# Altium schematic symbol library ADP_MyLib.SchLib: 203 symbols (part 2 of 4)
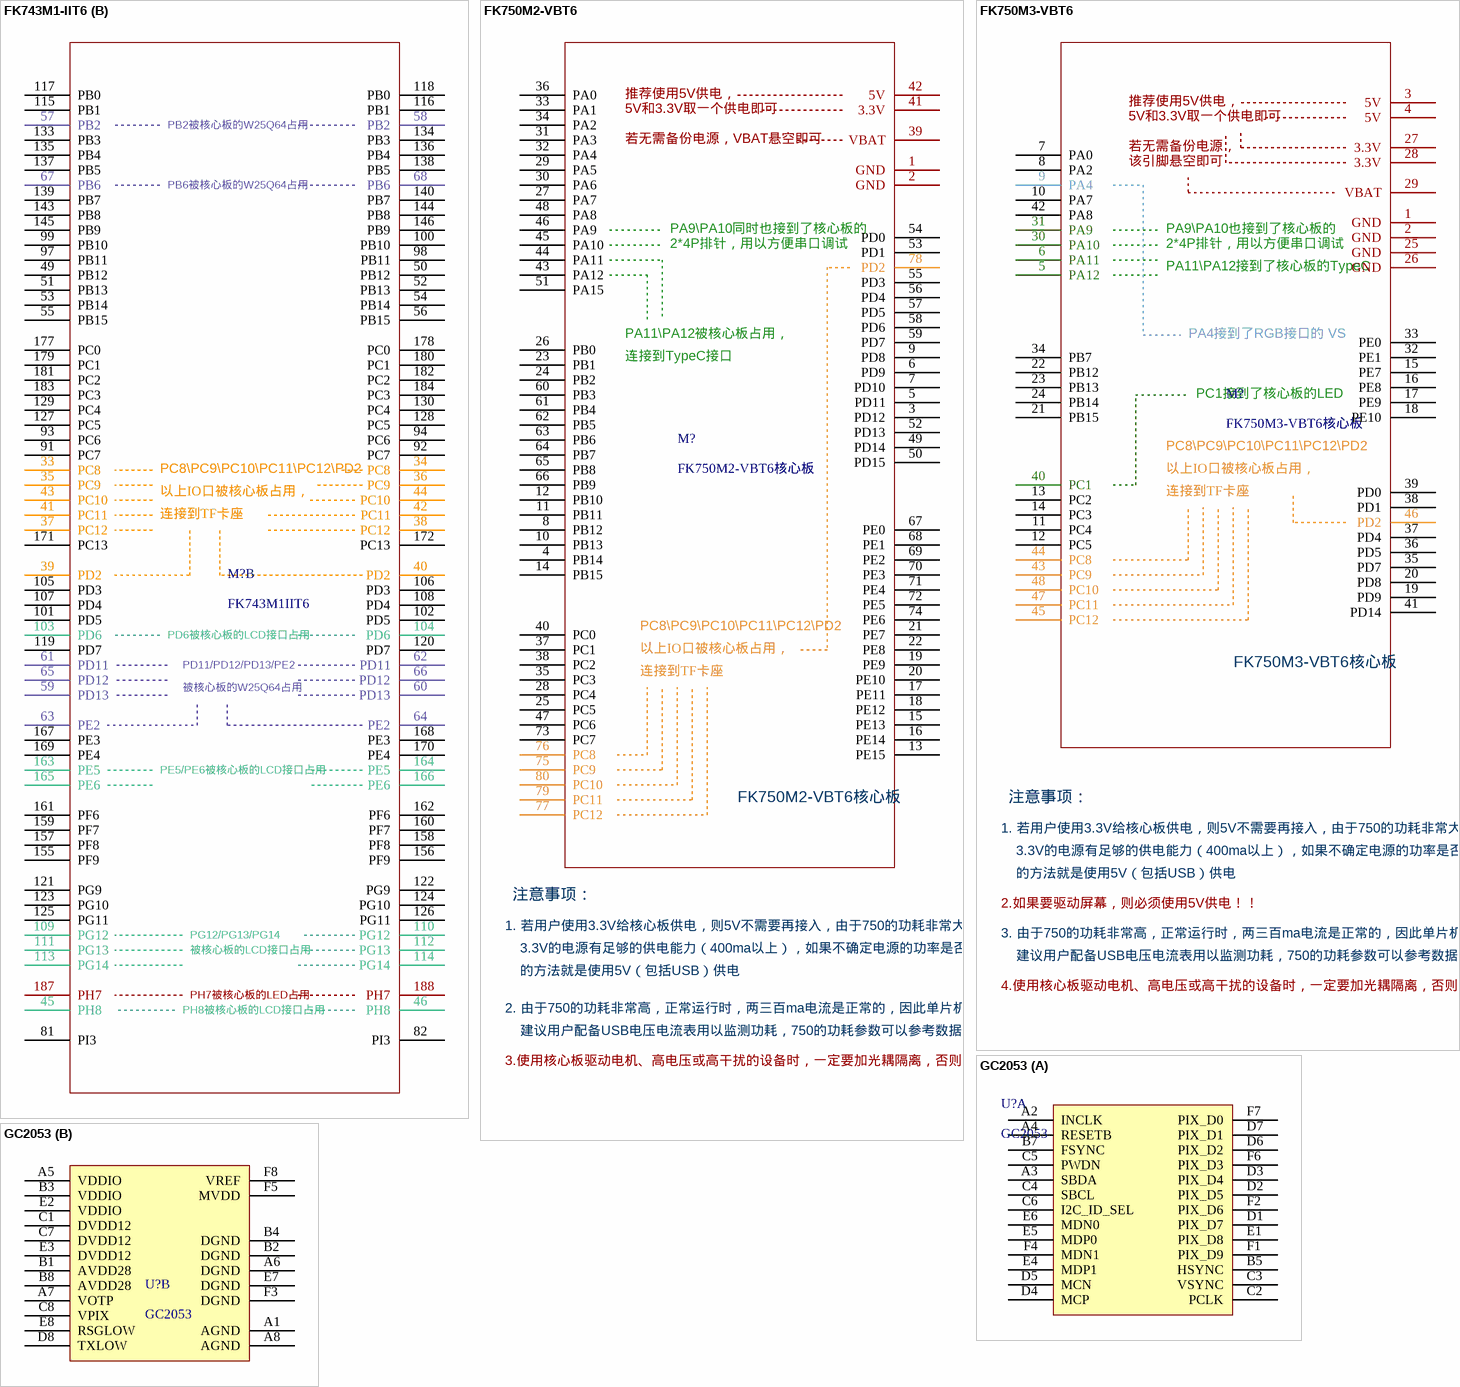
[diagram p23: symbols FK743M1-IIT6 to GC2053]

## FK743M1-IIT6
designator M?, comment FK743M1IIT6
footprint FK743M1-IIT6
part A pins: 1 5V, 2 5V, 3 5V, 4 5V, 5 5V, 6 5V, 7 5V, 8 5V, 9 NC, 10 NC, 11 3.3V, 12 3.3V, 13 3.3V, 14 3.3V, 15 3.3V, 16 3.3V, 17 3.3V, 18 3.3V, 19 NC, 20 NC, 21 GND, 22 GND, 23 GND, 24 GND, 25 GND, 26 GND, 27 GND, 28 GND, 29 GND, 30 GND, 31 GND, 32 GND, 47 PA8, 48 PA8, 69 GND, 70 GND, 71 GND, 72 GND, 73 GND, 74 GND, 75 GND, 76 GND, 77 PA13, 78 PA13, 79 PA14, 80 PA14, 83 PA12, 84 PA12, 85 PA11, 86 PA11, 87 PA10, 88 PA10, 89 PA9, 90 PA9, 95 PA15, 96 PA15, 131 PA7, 132 PA7, 141 BOOT0, 142 BOOT0, 147 PA6, 148 PA6, 149 PA5, 150 PA5, 151 PA4, 152 PA4, 153 PA3, 154 PA3, 173 PA1, 174 PA1, 175 PA0, 176 PA0, 185 PA2, 186 PA2, 189 RST, 190 RST, 191 VBAT, 192 VBAT, 193 VREF, 194 VREF, 195 GND, 196 GND, 197 GND, 198 GND, 199 GND, 200 GND, 201 GND, 202 GND, 203 GND, 204 GND
part B pins: 33 PC8, 34 PC8, 35 PC9, 36 PC9, 37 PC12, 38 PC12, 39 PD2, 40 PD2, 41 PC11, 42 PC11, 43 PC10, 44 PC10, 45 PH8, 46 PH8, 49 PB12, 50 PB12, 51 PB13, 52 PB13, 53 PB14, 54 PB14, 55 PB15, 56 PB15, 57 PB2, 58 PB2, 59 PD13, 60 PD13, 61 PD11, 62 PD11, 63 PE2, 64 PE2, 65 PD12, 66 PD12, 67 PB6, 68 PB6, 81 PI3, 82 PI3, 91 PC7, 92 PC7, 93 PC6, 94 PC6, 97 PB11, 98 PB11, 99 PB10, 100 PB10, 101 PD5, 102 PD5, 103 PD6, 104 PD6, 105 PD3, 106 PD3, 107 PD4, 108 PD4, 109 PG12, 110 PG12, 111 PG13, 112 PG13, 113 PG14, 114 PG14, 115 PB1, 116 PB1, 117 PB0, 118 PB0, 119 PD7, 120 PD7, 121 PG9, 122 PG9, 123 PG10, 124 PG10, 125 PG11, 126 PG11, 127 PC5, 128 PC5, 129 PC4, 130 PC4, 133 PB3, 134 PB3, 135 PB4, 136 PB4, 137 PB5, 138 PB5, 139 PB7, 140 PB7, 143 PB8, 144 PB8, 145 PB9, 146 PB9, 155 PF9, 156 PF9, 157 PF8, 158 PF8, 159 PF7, 160 PF7, 161 PF6, 162 PF6, 163 PE5, 164 PE5, 165 PE6, 166 PE6, 167 PE3, 168 PE3, 169 PE4, 170 PE4, 171 PC13, 172 PC13, 177 PC0, 178 PC0, 179 PC1, 180 PC1, 181 PC2, 182 PC2, 183 PC3, 184 PC3, 187 PH7, 188 PH7
part A text: 5V和3.3V取一个供电即可，; 推荐使用5V供电，; 不管用哪个电压供电，; 请确保有4个以上的引脚被连接; 核心板已经有复位电路，; 一般情况RST悬空即可; 若无需备份电源，VBAT悬空即可; 核心板已经有BOOT电路，; 一般情况BOOT悬空即可; 核心板默认将3.3V电源电压作为参考电压，; 一般情况下VREF引脚悬空即可，若需要接; 入外部参考电压，需要把核心板的vref电阻去掉; 在布线允许的情况下，; 应尽可能的把GND都连上; PA2被核心板的LCD接口占用; PA8被核心板的LCD接口占用; PA9\PA10在核心板预留了对应的孔位，; 用户可以根据需要自行引出; PA11\PA12接到了核心板的TypeC; PA13\PA14为SWD接口，核心板预留了孔位，; FK743M1-IIT6核心板; 注意事项：; 1. 若用户使用3.3V给核心板供电，则5V不需要再接入，由于743的功耗非常大，必须要确保; 3.3V的电源有足够的供电能力（400ma以上），如果不确定电源的功率是否足够，最简单; 的方法就是使用5V（包括USB）供电; 2.如果要驱动屏幕，则必须使用5V供电！！; 3. 由于743的功耗非常高，正常运行时，两三百ma电流是正常的，因此单片机发热会很严重，; 建议用户配备USB电压电流表用以监测功耗，743的功耗参数可以参考数据手册的相关说明; 4.使用核心板驱动电机、高电压或高干扰的设备时，一定要加光耦隔离，否则很容易损坏单片机！！！; 5.端子左右两边都是同一个电气网络，用户根据布线的方便选择其中一个连接即可，; 电源供电部分，不管用多少V供电，请确保有4个以上的引脚被连接，在布线允许; 的情况下，应尽可能的把GND都连上
part B text: PB2被核心板的W25Q64占用; PB6被核心板的W25Q64占用; PC8\PC9\PC10\PC11\PC12\PD2; 以上IO口被核心板占用，; 连接到TF卡座; PD6被核心板的LCD接口占用; PD11/PD12/PD13/PE2; 被核心板的W25Q64占用; PE5/PE6被核心板的LCD接口占用; PG12/PG13/PG14; 被核心板的LCD接口占用; PH7被核心板的LED占用; PH8被核心板的LCD接口占用

## FK750M2-VBT6
designator M?, comment FK750M2-VBT6核心板
footprint FK750M2-VBT6(精简版)
pins: 1 GND, 2 GND, 3 PD12, 4 PB14, 5 PD11, 6 PD9, 7 PD10, 8 PB12, 9 PD8, 10 PB13, 11 PB11, 12 PB10, 13 PE15, 14 PB15, 15 PE13, 16 PE14, 17 PE11, 18 PE12, 19 PE9, 20 PE10, 21 PE7, 22 PE8, 23 PB1, 24 PB2, 25 PC5, 26 PB0, 27 PA7, 28 PC4, 29 PA5, 30 PA6, 31 PA3, 32 PA4, 33 PA1, 34 PA2, 35 PC3, 36 PA0, 37 PC1, 38 PC2, 39 VBAT, 40 PC0, 41 3.3V, 42 5V, 43 PA12, 44 PA11, 45 PA10, 46 PA9, 47 PC6, 48 PA8, 49 PD14, 50 PD15, 51 PA15, 52 PD13, 53 PD1, 54 PD0, 55 PD3, 56 PD4, 57 PD5, 58 PD6, 59 PD7, 60 PB3, 61 PB4, 62 PB5, 63 PB6, 64 PB7, 65 PB8, 66 PB9, 67 PE0, 68 PE1, 69 PE2, 70 PE3, 71 PE4, 72 PE5, 73 PC7, 74 PE6, 75 PC9, 76 PC8, 77 PC12, 78 PD2, 79 PC11, 80 PC10
text: 推荐使用5V供电，; 5V和3.3V取一个供电即可; 若无需备份电源，VBAT悬空即可; PA9\PA10同时也接到了核心板的; 2*4P排针，用以方便串口调试; PA11\PA12被核心板占用，; 连接到TypeC接口; PC8\PC9\PC10\PC11\PC12\PD2; 以上IO口被核心板占用，; 连接到TF卡座; 注意事项：; 1. 若用户使用3.3V给核心板供电，则5V不需要再接入，由于750的功耗非常大，必须要确保; 3.3V的电源有足够的供电能力（400ma以上），如果不确定电源的功率是否足够，最简单; 的方法就是使用5V（包括USB）供电; 2. 由于750的功耗非常高，正常运行时，两三百ma电流是正常的，因此单片机发热会很严重，; 建议用户配备USB电压电流表用以监测功耗，750的功耗参数可以参考数据手册的相关说明; 3.使用核心板驱动电机、高电压或高干扰的设备时，一定要加光耦隔离，否则很容易损坏单片机！！！

## FK750M3-VBT6
designator M?, comment FK750M3-VBT6核心板
footprint FK750M3-VBT6直插
footprint FK750M3-VBT6半孔贴装
pins: 1 GND, 2 GND, 3 5V, 4 5V, 5 PA12, 6 PA11, 7 PA0, 8 PA2, 9 PA4, 10 PA7, 11 PC4, 12 PC5, 13 PC2, 14 PC3, 15 PE7, 16 PE8, 17 PE9, 18 PE10, 19 PD9, 20 PD8, 21 PB15, 22 PB12, 23 PB13, 24 PB14, 25 GND, 26 GND, 27 3.3V, 28 3.3V, 29 VBAT, 30 PA10, 31 PA9, 32 PE1, 33 PE0, 34 PB7, 35 PD7, 36 PD5, 37 PD4, 38 PD1, 39 PD0, 40 PC1, 41 PD14, 42 PA8, 43 PC9, 44 PC8, 45 PC12, 46 PD2, 47 PC11, 48 PC10
text: 推荐使用5V供电，; 5V和3.3V取一个供电即可; 若无需备份电源，; 该引脚悬空即可; PA9\PA10也接到了核心板的; 2*4P排针，用以方便串口调试; PA11\PA12接到了核心板的TypeC; PA4接到了RGB接口的 VS; PC1接到了核心板的LED; PC8\PC9\PC10\PC11\PC12\PD2; 以上IO口被核心板占用，; 连接到TF卡座; 注意事项：; 1. 若用户使用3.3V给核心板供电，则5V不需要再接入，由于750的功耗非常大，必须要确保; 3.3V的电源有足够的供电能力（400ma以上），如果不确定电源的功率是否足够，最简单; 的方法就是使用5V（包括USB）供电; 2.如果要驱动屏幕，则必须使用5V供电！！; 3. 由于750的功耗非常高，正常运行时，两三百ma电流是正常的，因此单片机发热会很严重，; 建议用户配备USB电压电流表用以监测功耗，750的功耗参数可以参考数据手册的相关说明; 4.使用核心板驱动电机、高电压或高干扰的设备时，一定要加光耦隔离，否则很容易损坏单片机！！！

## GC2053
designator U?
CMOS Sensor
footprint BGA47CP65X69_8X6_410X613X81B30N (Ball Grid Array (BGA), 0.65 mm row pitch X 0.69 mm col. pitch, rect.; 48 pin, 4.102 mm L X 6.135 mm W X 0.815 mm H body)
part A pins: A2 INCLK, A3 SBDA, A4 RESETB, B5 HSYNC, B7 FSYNC, C2 PCLK, C3 VSYNC, C4 SBCL, C5 PWDN, C6 I2C_ID_SEL, D1 PIX_D7, D2 PIX_D5, D3 PIX_D4, D4 MCP, D5 MCN, D6 PIX_D2, D7 PIX_D1, E1 PIX_D8, E4 MDP1, E5 MDP0, E6 MDN0, F1 PIX_D9, F2 PIX_D6, F4 MDN1, F6 PIX_D3, F7 PIX_D0
part B pins: A1 AGND, A5 VDDIO, A6 DGND, A7 VOTP, A8 AGND, B1 AVDD28, B2 DGND, B3 VDDIO, B4 DGND, B8 AVDD28, C1 DVDD12, C7 DVDD12, C8 VPIX, D8 TXLOW, E2 VDDIO, E3 DVDD12, E7 DGND, E8 RSGLOW, F3 DGND, F5 MVDD, F8 VREF

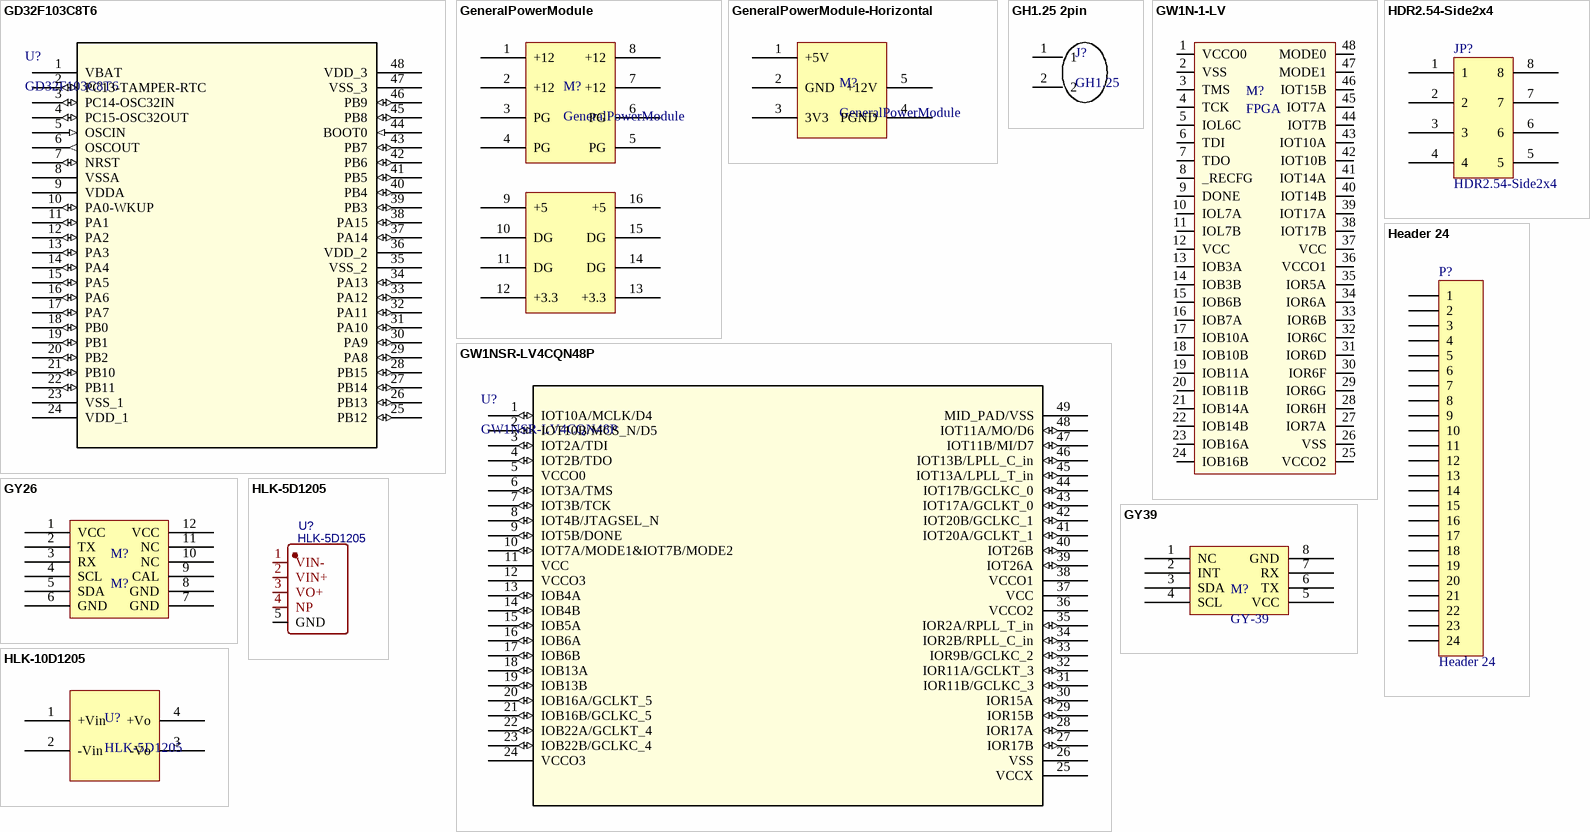
[diagram p7: symbols GD32F103C8T6 to HLK-10D1205]

## GD32F103C8T6
designator U?
国产替换STM32; Mfr_Name: GigaDevice; Copyright: Copyright (C) 2022 Ultra Librarian. All rights reserved.; Manufacturer_Part_Number: GD32F103C8T6; RefDes: RefDes; Type: DEV
footprint LQFP48
pins: 1 VBAT (power), 2 PC13-TAMPER-RTC (io), 3 PC14-OSC32IN (io), 4 PC15-OSC32OUT (io), 5 OSCIN (in), 6 OSCOUT (out), 7 NRST (io), 8 VSSA (power), 9 VDDA (power), 10 PA0-WKUP (io), 11 PA1 (io), 12 PA2 (io), 13 PA3 (io), 14 PA4 (io), 15 PA5 (io), 16 PA6 (io), 17 PA7 (io), 18 PB0 (io), 19 PB1 (io), 20 PB2 (io), 21 PB10 (io), 22 PB11 (io), 23 VSS_1 (power), 24 VDD_1 (power), 25 PB12 (io), 26 PB13 (io), 27 PB14 (io), 28 PB15 (io), 29 PA8 (io), 30 PA9 (io), 31 PA10 (io), 32 PA11 (io), 33 PA12 (io), 34 PA13 (io), 35 VSS_2 (power), 36 VDD_2 (power), 37 PA14 (io), 38 PA15 (io), 39 PB3 (io), 40 PB4 (io), 41 PB5 (io), 42 PB6 (io), 43 PB7 (io), 44 BOOT0 (in), 45 PB8 (io), 46 PB9 (io), 47 VSS_3 (power), 48 VDD_3 (power)

## GeneralPowerModule
designator M?
立式电源模块
footprint 排针-座 2*4
pins: 1 +12, 2 +12, 3 PG, 4 PG, 5 PG, 6 PG, 7 +12, 8 +12, 9 +5, 10 DG, 11 DG, 12 +3.3, 13 +3.3, 14 DG, 15 DG, 16 +5

## GeneralPowerModule-Horizontal
designator M?, comment GeneralPowerModule
叠层电源模块
footprint 螺柱-座 5
pins: 1 +5V, 2 GND, 3 3V3, 4 PGND, 5 +12V

## GH1.25 2pin
designator J?, comment GH1.25
GH1.25-2P
footprint GH1.25 2pin
pins: 1, 2

## GW1N-1-LV
designator M?, comment FPGA
高云GW1N FPGA
footprint QFN48 6X6 (QFN, 48-Leads, Body 7.00x7.00mm, Pitch 0.50mm, Thermal Pad 5.73x5.73mm, IPC Medium Density)
pins: 1 VCCO0, 2 VSS, 3 TMS, 4 TCK, 5 IOL6C, 6 TDI, 7 TDO, 8 _RECFG, 9 DONE, 10 IOL7A, 11 IOL7B, 12 VCC, 13 IOB3A, 14 IOB3B, 15 IOB6B, 16 IOB7A, 17 IOB10A, 18 IOB10B, 19 IOB11A, 20 IOB11B, 21 IOB14A, 22 IOB14B, 23 IOB16A, 24 IOB16B, 25 VCCO2, 26 VSS, 27 IOR7A, 28 IOR6H, 29 IOR6G, 30 IOR6F, 31 IOR6D, 32 IOR6C, 33 IOR6B, 34 IOR6A, 35 IOR5A, 36 VCCO1, 37 VCC, 38 IOT17B, 39 IOT17A, 40 IOT14B, 41 IOT14A, 42 IOT10B, 43 IOT10A, 44 IOT7B, 45 IOT7A, 46 IOT15B, 47 MODE1, 48 MODE0

## GW1NSR-LV4CQN48P
designator U?
高云GW1NSR PSOC; Mfr_Name: GOWIN; Manufacturer_Part_Number: GW1NSR-LV4CQN48GC7I6; Copyright: Copyright (C) 2023 Ultra Librarian. All rights reserved.; RefDes: RefDes; Type: DEV
footprint GW1NSR-4/GW1NSR-4C_QN48P/QN48G_GWN
footprint GW1NSR-4/GW1NSR-4C_QN48P/QN48G_GWN-L
footprint GW1NSR-4/GW1NSR-4C_QN48P/QN48G_GWN-M
pins: 1 IOT10A/MCLK/D4 (io), 2 IOT10B/MCS_N/D5 (io), 3 IOT2A/TDI (io), 4 IOT2B/TDO (io), 5 VCCO0 (power), 6 IOT3A/TMS (io), 7 IOT3B/TCK (io), 8 IOT4B/JTAGSEL_N (io), 9 IOT5B/DONE (io), 10 IOT7A/MODE1&IOT7B/MODE2 (io), 11 VCC (power), 12 VCCO3 (power), 13 IOB4A (io), 14 IOB4B (io), 15 IOB5A (io), 16 IOB6A (io), 17 IOB6B (io), 18 IOB13A (io), 19 IOB13B (io), 20 IOB16A/GCLKT_5 (io), 21 IOB16B/GCLKC_5 (io), 22 IOB22A/GCLKT_4 (io), 23 IOB22B/GCLKC_4 (io), 24 VCCO3 (power), 25 VCCX (power), 26 VSS, 27 IOR17B (io), 28 IOR17A (io), 29 IOR15B (io), 30 IOR15A (io), 31 IOR11B/GCLKC_3 (io), 32 IOR11A/GCLKT_3 (io), 33 IOR9B/GCLKC_2 (io), 34 IOR2B/RPLL_C_in (io), 35 IOR2A/RPLL_T_in (io), 36 VCCO2 (power), 37 VCC (power), 38 VCCO1 (power), 39 IOT26A (io), 40 IOT26B (io), 41 IOT20A/GCLKT_1 (io), 42 IOT20B/GCLKC_1 (io), 43 IOT17A/GCLKT_0 (io), 44 IOT17B/GCLKC_0 (io), 45 IOT13A/LPLL_T_in (io), 46 IOT13B/LPLL_C_in (io), 47 IOT11B/MI/D7 (io), 48 IOT11A/MO/D6 (io), 49 MID_PAD/VSS

## GY26
designator M?, comment M?
电子罗盘
footprint GY26 (GY26电子罗盘模块)
pins: 1 VCC, 2 TX, 3 RX, 4 SCL, 5 SDA, 6 GND, 7 GND, 8 GND, 9 CAL, 10 NC, 11 NC, 12 VCC

## GY39
designator M?, comment GY-39
温湿度大气压光照传感器
footprint GY39
pins: 1 NC, 2 INT, 3 SDA, 4 SCL, 5 VCC, 6 TX, 7 RX, 8 GND

## HDR2.54-Side2x4
designator JP?
侧插排针 2*4
footprint 排针-侧 2*4
pins: 1, 2, 3, 4, 5, 6, 7, 8

## Header 24
designator P?
Header, 24-Pin; LatestRevisionDate: 17-Jul-2002; LatestRevisionNote: Re-released for DXP Platform.; Publisher: Altium Limited
footprint HDR1X24 (Connector; Header; 24 Position)
pins: 1, 2, 3, 4, 5, 6, 7, 8, 9, 10, 11, 12, 13, 14, 15, 16, 17, 18, 19, 20, 21, 22, 23, 24

## HLK-5D1205
designator U?
隔离电源模块12V-5V，大号封装; BOM_Manufacturer: HI-LINK; Contributor: LCSC; BOM_Paste Type: expand; BOM_Supplier: LCSC; BOM_Supplier Part: C474033; BOM_Manufacturer Part: HLK-5D1205; spicePre: U; spiceSymbolName: HLK-5D1205
footprint HLK-5D1205
pins: 1 VIN-, 2 VIN+, 3 VO+, 4 NP, 5 GND

## HLK-10D1205
designator U?, comment HLK-5D1205
隔离电源模块12V-5V，小号封装
footprint HLK-10D1205
pins: 1 +Vin, 2 -Vin, 3 -Vo, 4 +Vo

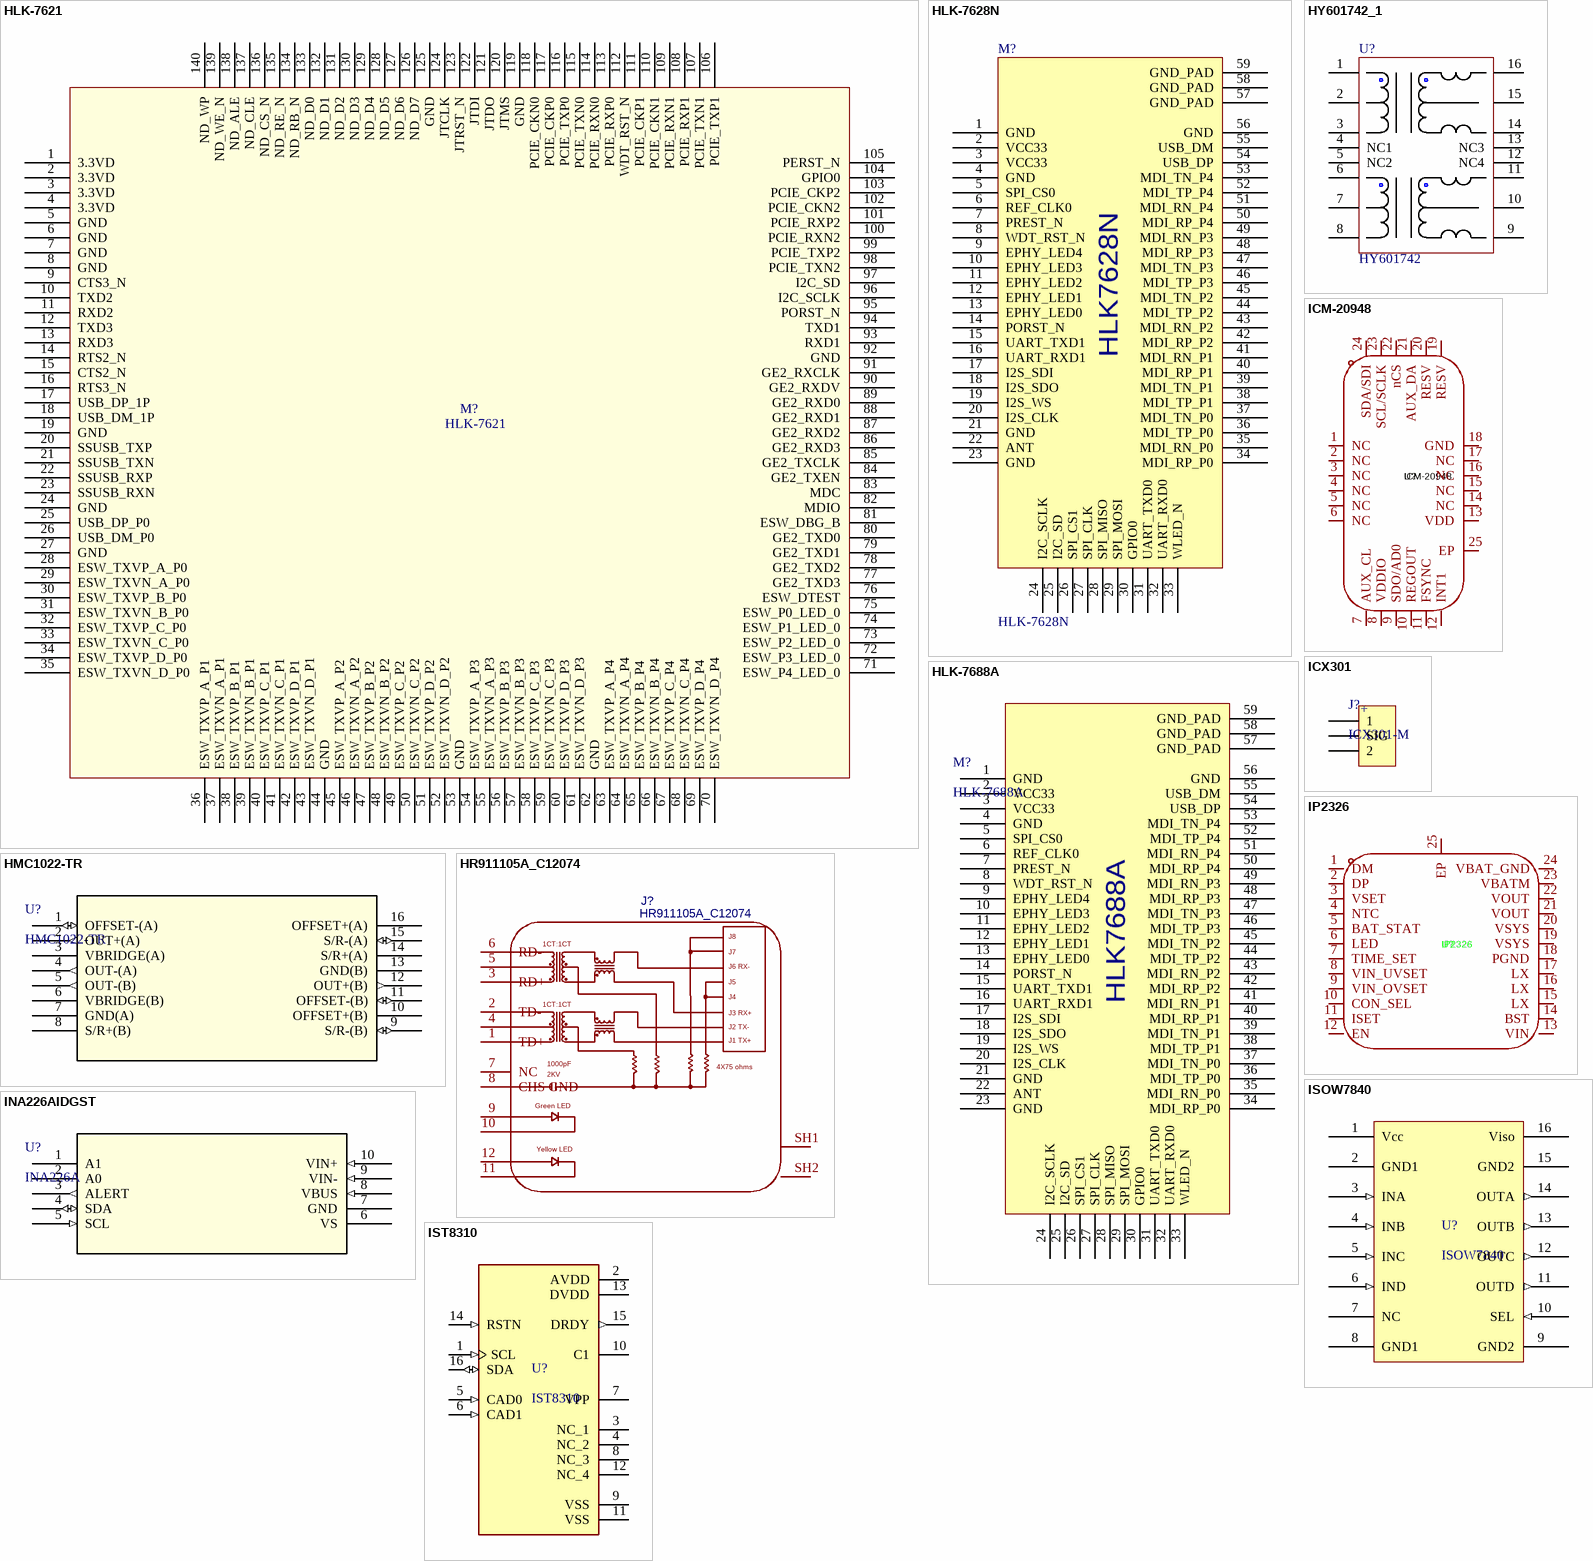
[diagram p8: symbols HLK-7621 to IST8310]

## HLK-7621
designator M?
MT7621模块
footprint HLK-7621
pins: 1 3.3VD, 2 3.3VD, 3 3.3VD, 4 3.3VD, 5 GND, 6 GND, 7 GND, 8 GND, 9 CTS3_N, 10 TXD2, 11 RXD2, 12 TXD3, 13 RXD3, 14 RTS2_N, 15 CTS2_N, 16 RTS3_N, 17 USB_DP_1P, 18 USB_DM_1P, 19 GND, 20 SSUSB_TXP, 21 SSUSB_TXN, 22 SSUSB_RXP, 23 SSUSB_RXN, 24 GND, 25 USB_DP_P0, 26 USB_DM_P0, 27 GND, 28 ESW_TXVP_A_P0, 29 ESW_TXVN_A_P0, 30 ESW_TXVP_B_P0, 31 ESW_TXVN_B_P0, 32 ESW_TXVP_C_P0, 33 ESW_TXVN_C_P0, 34 ESW_TXVP_D_P0, 35 ESW_TXVN_D_P0, 36 ESW_TXVP_A_P1, 37 ESW_TXVN_A_P1, 38 ESW_TXVP_B_P1, 39 ESW_TXVN_B_P1, 40 ESW_TXVP_C_P1, 41 ESW_TXVN_C_P1, 42 ESW_TXVP_D_P1, 43 ESW_TXVN_D_P1, 44 GND, 45 ESW_TXVP_A_P2, 46 ESW_TXVN_A_P2, 47 ESW_TXVP_B_P2, 48 ESW_TXVN_B_P2, 49 ESW_TXVP_C_P2, 50 ESW_TXVN_C_P2, 51 ESW_TXVP_D_P2, 52 ESW_TXVN_D_P2, 53 GND, 54 ESW_TXVP_A_P3, 55 ESW_TXVN_A_P3, 56 ESW_TXVP_B_P3, 57 ESW_TXVN_B_P3, 58 ESW_TXVP_C_P3, 59 ESW_TXVN_C_P3, 60 ESW_TXVP_D_P3, 61 ESW_TXVN_D_P3, 62 GND, 63 ESW_TXVP_A_P4, 64 ESW_TXVN_A_P4, 65 ESW_TXVP_B_P4, 66 ESW_TXVN_B_P4, 67 ESW_TXVP_C_P4, 68 ESW_TXVN_C_P4, 69 ESW_TXVP_D_P4, 70 ESW_TXVN_D_P4, 71 ESW_P4_LED_0, 72 ESW_P3_LED_0, 73 ESW_P2_LED_0, 74 ESW_P1_LED_0, 75 ESW_P0_LED_0, 76 ESW_DTEST, 77 GE2_TXD3, 78 GE2_TXD2, 79 GE2_TXD1, 80 GE2_TXD0, 81 ESW_DBG_B, 82 MDIO, 83 MDC, 84 GE2_TXEN, 85 GE2_TXCLK, 86 GE2_RXD3, 87 GE2_RXD2, 88 GE2_RXD1, 89 GE2_RXD0, 90 GE2_RXDV, 91 GE2_RXCLK, 92 GND, 93 RXD1, 94 TXD1, 95 PORST_N, 96 I2C_SCLK, 97 I2C_SD, 98 PCIE_TXN2, 99 PCIE_TXP2, 100 PCIE_RXN2, 101 PCIE_RXP2, 102 PCIE_CKN2, 103 PCIE_CKP2, 104 GPIO0, 105 PERST_N, 106 PCIE_TXP1, 107 PCIE_TXN1, 108 PCIE_RXP1, 109 PCIE_RXN1, 110 PCIE_CKN1, 111 PCIE_CKP1, 112 WDT_RST_N, 113 PCIE_RXP0, 114 PCIE_RXN0, 115 PCIE_TXN0, 116 PCIE_TXP0, 117 PCIE_CKP0, 118 PCIE_CKN0, 119 GND, 120 JTMS, 121 JTDO, 122 JTDI, 123 JTRST_N, 124 JTCLK, 125 GND, 126 ND_D7, 127 ND_D6, 128 ND_D5, 129 ND_D4, 130 ND_D3, 131 ND_D2, 132 ND_D1, 133 ND_D0, 134 ND_RB_N, 135 ND_RE_N, 136 ND_CS_N, 137 ND_CLE, 138 ND_ALE, 139 ND_WE_N, 140 ND_WP

## HLK-7628N
designator M?
MT7628模块
footprint 7628N
pins: 1 GND, 2 VCC33, 3 VCC33, 4 GND, 5 SPI_CS0, 6 REF_CLK0, 7 PREST_N, 8 WDT_RST_N, 9 EPHY_LED4, 10 EPHY_LED3, 11 EPHY_LED2, 12 EPHY_LED1, 13 EPHY_LED0, 14 PORST_N, 15 UART_TXD1, 16 UART_RXD1, 17 I2S_SDI, 18 I2S_SDO, 19 I2S_WS, 20 I2S_CLK, 21 GND, 22 ANT, 23 GND, 24 I2C_SCLK, 25 I2C_SD, 26 SPI_CS1, 27 SPI_CLK, 28 SPI_MISO, 29 SPI_MOSI, 30 GPIO0, 31 UART_TXD0, 32 UART_RXD0, 33 WLED_N, 34 MDI_RP_P0, 35 MDI_RN_P0, 36 MDI_TP_P0, 37 MDI_TN_P0, 38 MDI_TP_P1, 39 MDI_TN_P1, 40 MDI_RP_P1, 41 MDI_RN_P1, 42 MDI_RP_P2, 43 MDI_RN_P2, 44 MDI_TP_P2, 45 MDI_TN_P2, 46 MDI_TP_P3, 47 MDI_TN_P3, 48 MDI_RP_P3, 49 MDI_RN_P3, 50 MDI_RP_P4, 51 MDI_RN_P4, 52 MDI_TP_P4, 53 MDI_TN_P4, 54 USB_DP, 55 USB_DM, 56 GND, 57 GND_PAD, 58 GND_PAD, 59 GND_PAD
text: HLK7628N

## HLK-7688A
designator M?
MT7688模块
footprint 7688A
pins: 1 GND, 2 VCC33, 3 VCC33, 4 GND, 5 SPI_CS0, 6 REF_CLK0, 7 PREST_N, 8 WDT_RST_N, 9 EPHY_LED4, 10 EPHY_LED3, 11 EPHY_LED2, 12 EPHY_LED1, 13 EPHY_LED0, 14 PORST_N, 15 UART_TXD1, 16 UART_RXD1, 17 I2S_SDI, 18 I2S_SDO, 19 I2S_WS, 20 I2S_CLK, 21 GND, 22 ANT, 23 GND, 24 I2C_SCLK, 25 I2C_SD, 26 SPI_CS1, 27 SPI_CLK, 28 SPI_MISO, 29 SPI_MOSI, 30 GPIO0, 31 UART_TXD0, 32 UART_RXD0, 33 WLED_N, 34 MDI_RP_P0, 35 MDI_RN_P0, 36 MDI_TP_P0, 37 MDI_TN_P0, 38 MDI_TP_P1, 39 MDI_TN_P1, 40 MDI_RP_P1, 41 MDI_RN_P1, 42 MDI_RP_P2, 43 MDI_RN_P2, 44 MDI_TP_P2, 45 MDI_TN_P2, 46 MDI_TP_P3, 47 MDI_TN_P3, 48 MDI_RP_P3, 49 MDI_RN_P3, 50 MDI_RP_P4, 51 MDI_RN_P4, 52 MDI_TP_P4, 53 MDI_TN_P4, 54 USB_DP, 55 USB_DM, 56 GND, 57 GND_PAD, 58 GND_PAD, 59 GND_PAD
text: HLK7688A

## HMC1022-TR
designator U?
单/双轴磁力计; Mfr_Name: Honeywell; RefDes: RefDes; Type: Type
footprint HMC1022_HNW
footprint HMC1022_HNW-L
footprint HMC1022_HNW-M
pins: 1 OFFSET-(A) (io), 2 OUT+(A) (out), 3 VBRIDGE(A), 4 OUT-(A) (out), 5 OUT-(B) (out), 6 VBRIDGE(B), 7 GND(A) (power), 8 S/R+(B), 9 S/R-(B) (io), 10 OFFSET+(B), 11 OFFSET-(B) (io), 12 OUT+(B) (out), 13 GND(B) (power), 14 S/R+(A), 15 S/R-(A) (io), 16 OFFSET+(A)

## HR911105A_C12074
designator J?
带变压器以太网口; BOM_Manufacturer: HANRUN; BOM_Paste Type: expand; BOM_Assembly Type: manualWeld; BOM_Supplier: LCSC; BOM_Manufacturer Part: HR911105A; image: //image.lceda.cn/szlcsc/C12074.jpg; BOM_Supplier Part: C12074; spicePre: J; spiceSymbolName: HR911105A_C12074
footprint RJ45
footprint RJ45-A12 (网线接口)
footprint RJ45-Short (RJ45屏蔽网络插座带LED)
pins: 1 TD+, 2 TD-, 3 RD+, 4, 5, 6 RD-, 7 NC, 8 CHS GND, 9, 10, 11, 12, SH1, SH2
text: J8; 1CT:1CT; J7; J6 RX-; J5; J4; J3 RX+; J2 TX-; J1 TX+; 1000pF; 4X75 ohms; 2KV; Green LED; Yellow LED

## HY601742_1
designator U?, comment HY601742
以太网变压器
footprint SOP-16_350mil (SOP, 16-Leads, Body 12.70x7.11mm, Pitch 1.27mm, IPC Low Density)
pins: 1 TD+, 2 CT1, 3 TD-, 4 NC1, 5 NC2, 6 RD+, 7 CT2, 8 RD-, 9 RX-, 10 CM2, 11 RX+, 12 NC4, 13 NC3, 14 TX-, 15 CM1, 16 TX+

## ICM-20948
designator U?
Manufacturer: TDK InvenSense(应美盛); Add into BOM: yes; Sensor Type: 加速度计陀螺仪; Symbol: ICM-20948; Device: ICM-20948; LCSC Part Name: ICM-20948; Supplier Part: C726001; Manufacturer Part: ICM-20948; Supplier Footprint: QFN-24(3x3); JLCPCB Part Class: Extended Part; Datasheet: https://atta.szlcsc.com/upload/public/pdf/source/20210715/C726001_EFE09342631EBC06FA98BEAE6CEEEE9D.pdf; Supplier: LCSC; Convert to PCB: yes; Operating Temperature: -40℃~+85℃
footprint QFN-24_L3.0-W3.0-P0.40-BL-EP
pins: 1 NC, 2 NC, 3 NC, 4 NC, 5 NC, 6 NC, 7 AUX_CL, 8 VDDIO, 9 SDO/AD0, 10 REGOUT, 11 FSYNC, 12 INT1, 13 VDD, 14 NC, 15 NC, 16 NC, 17 NC, 18 GND, 19 RESV, 20 RESV, 21 AUX_DA, 22 nCS, 23 SCL/SCLK, 24 SDA/SDI, 25 EP

## ICX301
designator J?, comment ICX301-M
XT30直插带信号脚
footprint ICX301
footprint ICX301-M
pins: 1, 2, 3 SIG
text: +

## INA226AIDGST
designator U?, comment INA226A
INA226 INA220 etc; Mfr_Name: Texas Instruments; RefDes: RefDes; Type: Type
footprint DGS10
footprint DGS10-L
footprint DGS10-M
pins: 1 A1, 2 A0, 3 ALERT (out), 4 SDA (io), 5 SCL (in), 6 VS (power), 7 GND (power), 8 VBUS (in), 9 VIN- (in), 10 VIN+ (in)

## IP2326
designator U?
Manufacturer: INJOINIC(英集芯); Add into BOM: yes; Symbol: IP2326; Device: IP2326; LCSC Part Name: IP2326; Supplier Part: C2832094; Manufacturer Part: IP2326; Supplier Footprint: VQFN-24-EP(4x4); JLCPCB Part Class: Extended Part; Datasheet: https://atta.szlcsc.com/upload/public/pdf/source/20210701/C2832094_E17C44C11E64EBC07E8B83E7E48DDEF6.pdf; Supplier: LCSC; Convert to PCB: yes
footprint VQFN-24_L4.0-W4.0-P0.50-BL-EP2.5
pins: 1 DM, 2 DP, 3 VSET, 4 NTC, 5 BAT_STAT, 6 LED, 7 TIME_SET, 8 VIN_UVSET, 9 VIN_OVSET, 10 CON_SEL, 11 ISET, 12 EN, 13 VIN, 14 BST, 15 LX, 16 LX, 17 LX, 18 PGND, 19 VSYS, 20 VSYS, 21 VOUT, 22 VOUT, 23 VBATM, 24 VBAT_GND, 25 EP

## ISOW7840
designator U?
数字隔离器
footprint ISOW7840 (SOIC, 16-Leads, Body 10.30x7.50mm, Pitch 1.27mm, IPC Medium Density)
pins: 1 Vcc (power), 2 GND1 (power), 3 INA (in), 4 INB (in), 5 INC (in), 6 IND (in), 7 NC, 8 GND1 (power), 9 GND2 (power), 10 SEL (in), 11 OUTD (out), 12 OUTC (out), 13 OUTB (out), 14 OUTA (out), 15 GND2 (power), 16 Viso (power)

## IST8310
designator U?
3轴磁力计; MF: Isentek; SnapEDA_Link: https://www.snapeda.com/parts/IST8310/Isentek/view-part/3595432/?ref=snap; MP: IST8310; Availability: Unavailable; Price: None; Value: *; Check_prices: https://www.snapeda.com/parts/IST8310/Isentek/view-part/3595432/?ref=eda; Package: Package
footprint PQFN50P300X300X110-16N
pins: 1 SCL (in), 2 AVDD (power), 3 NC_1, 4 NC_2, 5 CAD0 (in), 6 CAD1 (in), 7 VPP, 8 NC_3, 9 VSS (power), 10 C1, 11 VSS (power), 12 NC_4, 13 DVDD (power), 14 RSTN (in), 15 DRDY (out), 16 SDA (io)

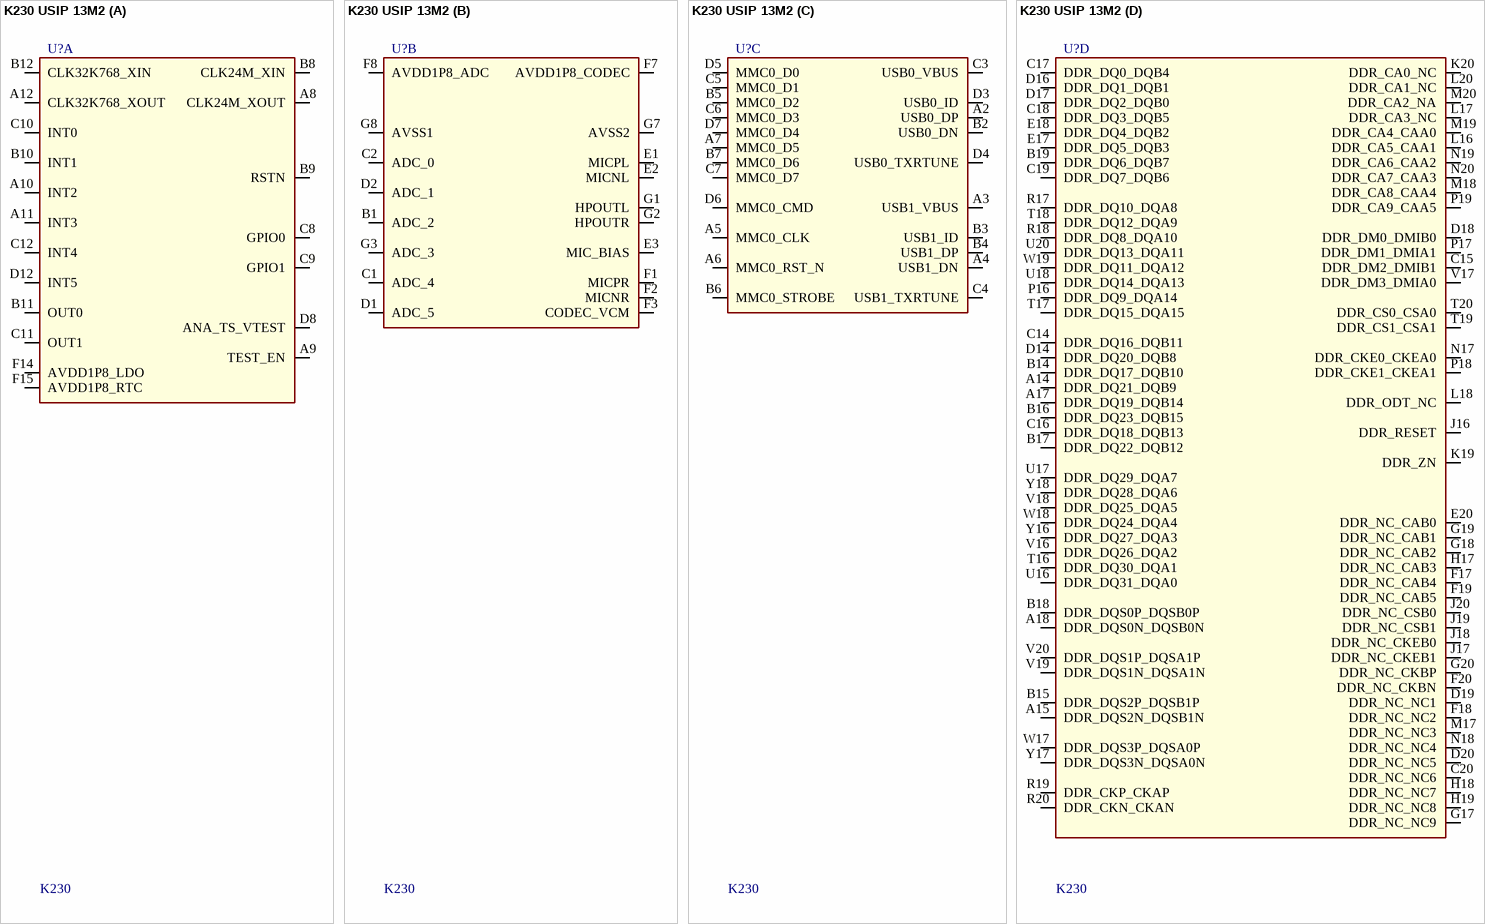
[diagram p9: symbol K230 USIP 13M2]

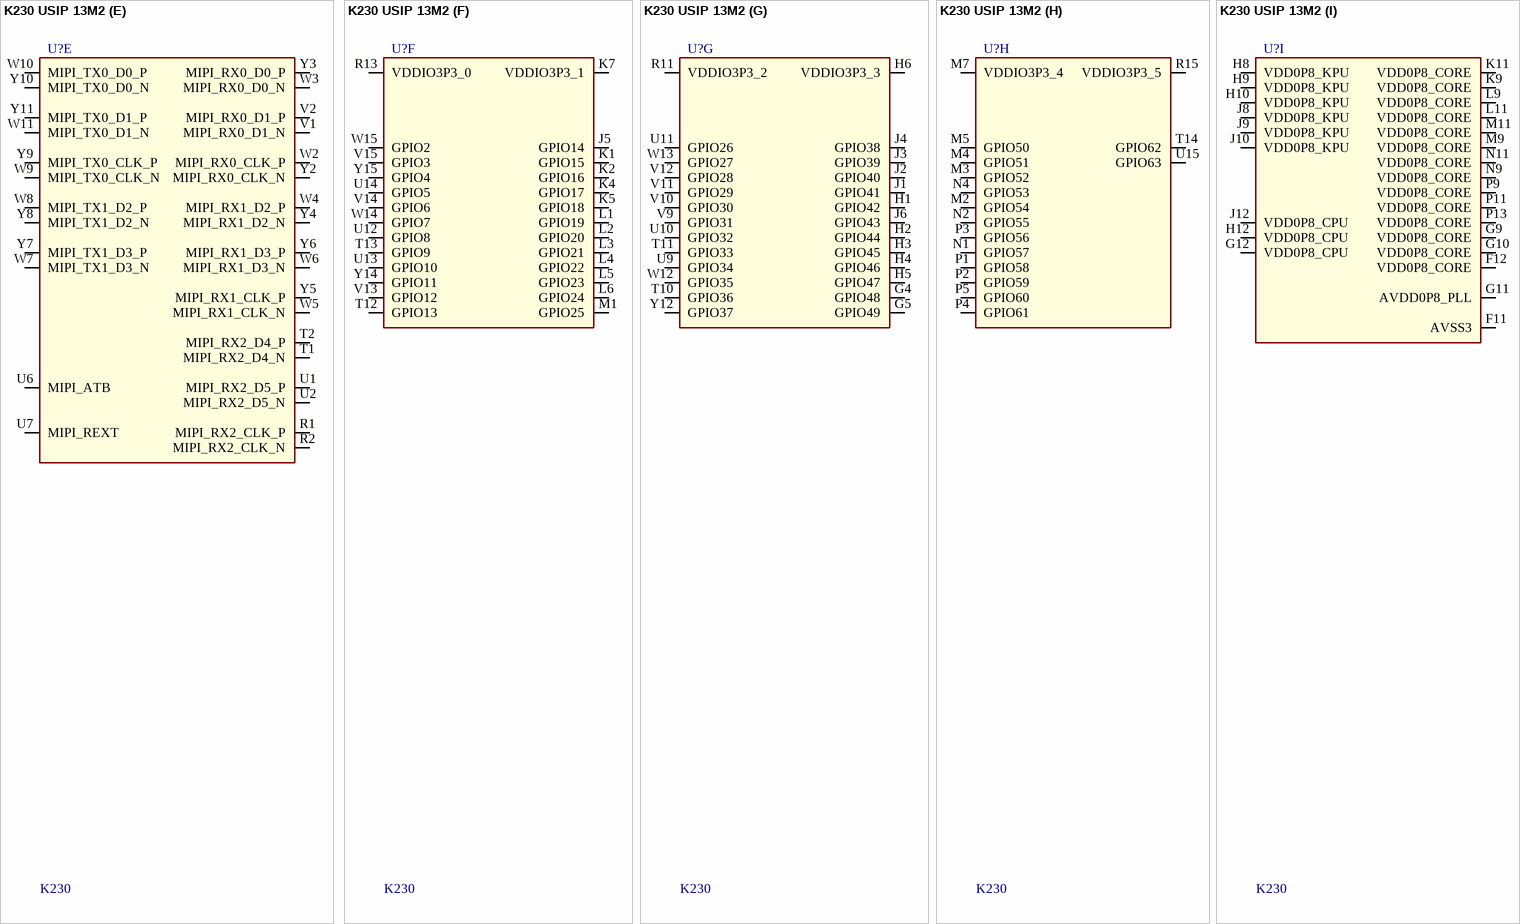
[diagram p10: symbol K230 USIP 13M2]

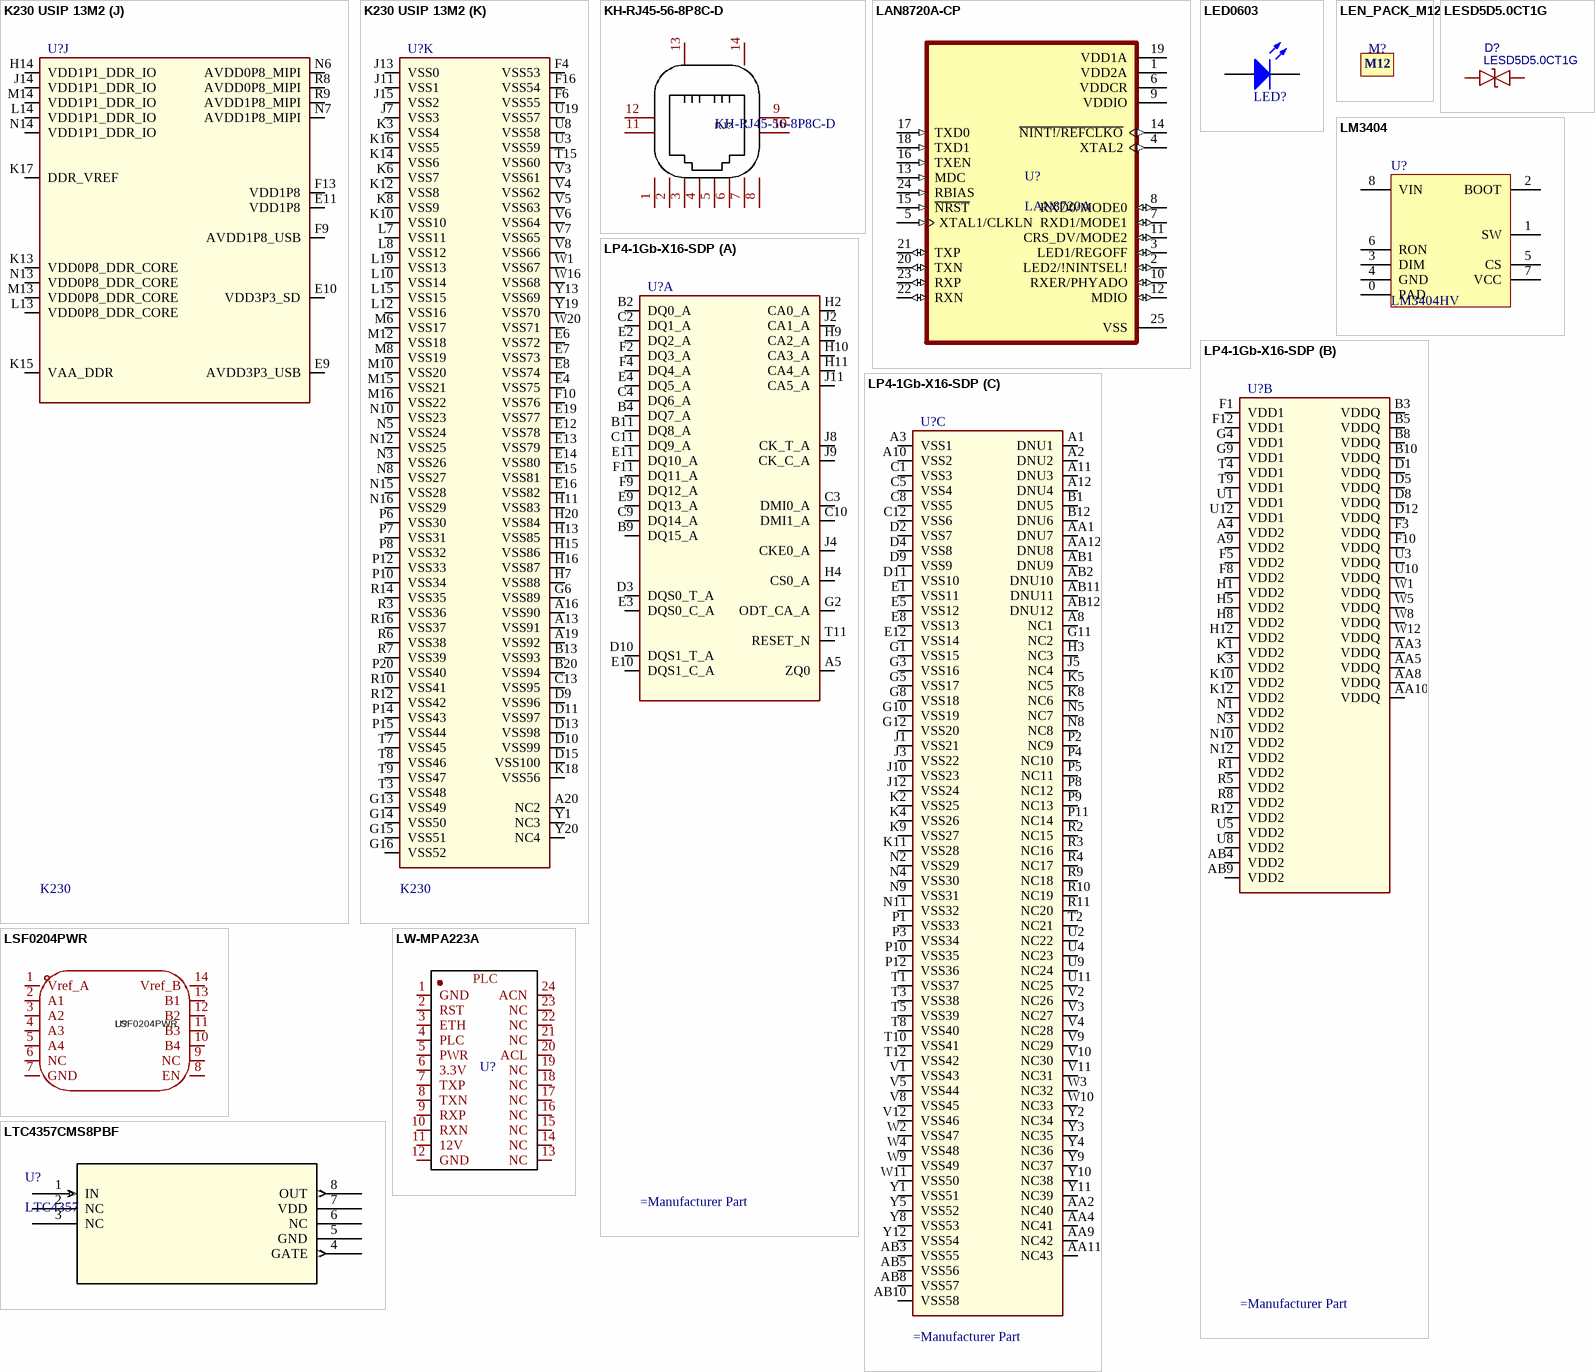
[diagram p11: symbols K230 USIP 13M2 to LW-MPA223A]

## K230 USIP 13M2
designator U?, comment K230
SWAP_INFO: (S1+S2+S3+S4+S5+S6+S7+S8+S9+S10+S11); SPLIT_INST: TRUE
footprint BBGA390-065-1313-020 (K230)
part A pins: A8 CLK24M_XOUT, A9 TEST_EN, A10 INT2, A11 INT3, A12 CLK32K768_XOUT, B8 CLK24M_XIN, B9 RSTN, B10 INT1, B11 OUT0, B12 CLK32K768_XIN, C8 GPIO0, C9 GPIO1, C10 INT0, C11 OUT1, C12 INT4, D8 ANA_TS_VTEST, D12 INT5, F14 AVDD1P8_LDO, F15 AVDD1P8_RTC
part B pins: B1 ADC_2, C1 ADC_4, C2 ADC_0, D1 ADC_5, D2 ADC_1, E1 MICPL, E2 MICNL, E3 MIC_BIAS, F1 MICPR, F2 MICNR, F3 CODEC_VCM, F7 AVDD1P8_CODEC, F8 AVDD1P8_ADC, G1 HPOUTL, G2 HPOUTR, G3 ADC_3, G7 AVSS2, G8 AVSS1
part C pins: A2 USB0_DP, A3 USB1_VBUS, A4 USB1_DN, A5 MMC0_CLK, A6 MMC0_RST_N, A7 MMC0_D5, B2 USB0_DN, B3 USB1_ID, B4 USB1_DP, B5 MMC0_D2, B6 MMC0_STROBE, B7 MMC0_D6, C3 USB0_VBUS, C4 USB1_TXRTUNE, C5 MMC0_D1, C6 MMC0_D3, C7 MMC0_D7, D3 USB0_ID, D4 USB0_TXRTUNE, D5 MMC0_D0, D6 MMC0_CMD, D7 MMC0_D4
part D pins: A14 DDR_DQ21_DQB9, A15 DDR_DQS2N_DQSB1N, A17 DDR_DQ19_DQB14, A18 DDR_DQS0N_DQSB0N, B14 DDR_DQ17_DQB10, B15 DDR_DQS2P_DQSB1P, B16 DDR_DQ23_DQB15, B17 DDR_DQ22_DQB12, B18 DDR_DQS0P_DQSB0P, B19 DDR_DQ6_DQB7, C14 DDR_DQ16_DQB11, C15 DDR_DM2_DMIB1, C16 DDR_DQ18_DQB13, C17 DDR_DQ0_DQB4, C18 DDR_DQ3_DQB5, C19 DDR_DQ7_DQB6, C20 DDR_NC_NC6, D14 DDR_DQ20_DQB8, D16 DDR_DQ1_DQB1, D17 DDR_DQ2_DQB0, D18 DDR_DM0_DMIB0, D19 DDR_NC_NC1, D20 DDR_NC_NC5, E17 DDR_DQ5_DQB3, E18 DDR_DQ4_DQB2, E20 DDR_NC_CAB0, F17 DDR_NC_CAB4, F18 DDR_NC_NC2, F19 DDR_NC_CAB5, F20 DDR_NC_CKBN, G17 DDR_NC_NC9, G18 DDR_NC_CAB2, G19 DDR_NC_CAB1, G20 DDR_NC_CKBP, H17 DDR_NC_CAB3, H18 DDR_NC_NC7, H19 DDR_NC_NC8, J16 DDR_RESET, J17 DDR_NC_CKEB1, J18 DDR_NC_CKEB0, J19 DDR_NC_CSB1, J20 DDR_NC_CSB0, K19 DDR_ZN, K20 DDR_CA0_NC, L16 DDR_CA5_CAA1, L17 DDR_CA3_NC, L18 DDR_ODT_NC, L20 DDR_CA1_NC, M17 DDR_NC_NC3, M18 DDR_CA8_CAA4, M19 DDR_CA4_CAA0, M20 DDR_CA2_NA, N17 DDR_CKE0_CKEA0, N18 DDR_NC_NC4, N19 DDR_CA6_CAA2, N20 DDR_CA7_CAA3, P16 DDR_DQ9_DQA14, P17 DDR_DM1_DMIA1, P18 DDR_CKE1_CKEA1, P19 DDR_CA9_CAA5, R17 DDR_DQ10_DQA8, R18 DDR_DQ8_DQA10, R19 DDR_CKP_CKAP, R20 DDR_CKN_CKAN, T16 DDR_DQ30_DQA1, T17 DDR_DQ15_DQA15, T18 DDR_DQ12_DQA9, T19 DDR_CS1_CSA1, T20 DDR_CS0_CSA0, U16 DDR_DQ31_DQA0, U17 DDR_DQ29_DQA7, U18 DDR_DQ14_DQA13, U20 DDR_DQ13_DQA11, V16 DDR_DQ26_DQA2, V17 DDR_DM3_DMIA0, V18 DDR_DQ25_DQA5, V19 DDR_DQS1N_DQSA1N, V20 DDR_DQS1P_DQSA1P, W17 DDR_DQS3P_DQSA0P, W18 DDR_DQ24_DQA4, W19 DDR_DQ11_DQA12, Y16 DDR_DQ27_DQA3, Y17 DDR_DQS3N_DQSA0N, Y18 DDR_DQ28_DQA6
part E pins: R1 MIPI_RX2_CLK_P, R2 MIPI_RX2_CLK_N, T1 MIPI_RX2_D4_N, T2 MIPI_RX2_D4_P, U1 MIPI_RX2_D5_P, U2 MIPI_RX2_D5_N, U6 MIPI_ATB, U7 MIPI_REXT, V1 MIPI_RX0_D1_N, V2 MIPI_RX0_D1_P, W2 MIPI_RX0_CLK_P, W3 MIPI_RX0_D0_N, W4 MIPI_RX1_D2_P, W5 MIPI_RX1_CLK_N, W6 MIPI_RX1_D3_N, W7 MIPI_TX1_D3_N, W8 MIPI_TX1_D2_P, W9 MIPI_TX0_CLK_N, W10 MIPI_TX0_D0_P, W11 MIPI_TX0_D1_N, Y2 MIPI_RX0_CLK_N, Y3 MIPI_RX0_D0_P, Y4 MIPI_RX1_D2_N, Y5 MIPI_RX1_CLK_P, Y6 MIPI_RX1_D3_P, Y7 MIPI_TX1_D3_P, Y8 MIPI_TX1_D2_N, Y9 MIPI_TX0_CLK_P, Y10 MIPI_TX0_D0_N, Y11 MIPI_TX0_D1_P
part F pins: J5 GPIO14, K1 GPIO15, K2 GPIO16, K4 GPIO17, K5 GPIO18, K7 VDDIO3P3_1, L1 GPIO19, L2 GPIO20, L3 GPIO21, L4 GPIO22, L5 GPIO23, L6 GPIO24, M1 GPIO25, R13 VDDIO3P3_0, T12 GPIO13, T13 GPIO9, U12 GPIO8, U13 GPIO10, U14 GPIO5, V13 GPIO12, V14 GPIO6, V15 GPIO3, W14 GPIO7, W15 GPIO2, Y14 GPIO11, Y15 GPIO4
part G pins: G4 GPIO48, G5 GPIO49, H1 GPIO42, H2 GPIO44, H3 GPIO45, H4 GPIO46, H5 GPIO47, H6 VDDIO3P3_3, J1 GPIO41, J2 GPIO40, J3 GPIO39, J4 GPIO38, J6 GPIO43, R11 VDDIO3P3_2, T10 GPIO36, T11 GPIO33, U9 GPIO34, U10 GPIO32, U11 GPIO26, V9 GPIO31, V10 GPIO30, V11 GPIO29, V12 GPIO28, W12 GPIO35, W13 GPIO27, Y12 GPIO37
part H pins: M2 GPIO54, M3 GPIO52, M4 GPIO51, M5 GPIO50, M7 VDDIO3P3_4, N1 GPIO57, N2 GPIO55, N4 GPIO53, P1 GPIO58, P2 GPIO59, P3 GPIO56, P4 GPIO61, P5 GPIO60, R15 VDDIO3P3_5, T14 GPIO62, U15 GPIO63
part I pins: F11 AVSS3, F12 VDD0P8_CORE (power), G9 VDD0P8_CORE (power), G10 VDD0P8_CORE (power), G11 AVDD0P8_PLL (power), G12 VDD0P8_CPU (power), H8 VDD0P8_KPU (power), H9 VDD0P8_KPU (power), H10 VDD0P8_KPU (power), H12 VDD0P8_CPU (power), J8 VDD0P8_KPU (power), J9 VDD0P8_KPU (power), J10 VDD0P8_KPU (power), J12 VDD0P8_CPU (power), K9 VDD0P8_CORE (power), K11 VDD0P8_CORE (power), L9 VDD0P8_CORE (power), L11 VDD0P8_CORE (power), M9 VDD0P8_CORE (power), M11 VDD0P8_CORE (power), N9 VDD0P8_CORE (power), N11 VDD0P8_CORE (power), P9 VDD0P8_CORE (power), P11 VDD0P8_CORE (power), P13 VDD0P8_CORE (power)
part J pins: E9 AVDD3P3_USB (power), E10 VDD3P3_SD (power), E11 VDD1P8 (power), F9 AVDD1P8_USB, F13 VDD1P8 (power), H14 VDD1P1_DDR_IO (power), J14 VDD1P1_DDR_IO (power), K13 VDD0P8_DDR_CORE (power), K15 VAA_DDR (power), K17 DDR_VREF, L13 VDD0P8_DDR_CORE (power), L14 VDD1P1_DDR_IO (power), M13 VDD0P8_DDR_CORE (power), M14 VDD1P1_DDR_IO (power), N6 AVDD0P8_MIPI (power), N7 AVDD1P8_MIPI (power), N13 VDD0P8_DDR_CORE (power), N14 VDD1P1_DDR_IO (power), R8 AVDD0P8_MIPI (power), R9 AVDD1P8_MIPI (power)
part K pins: A13 VSS91, A16 VSS90, A19 VSS92, A20 NC2, B13 VSS93, B20 VSS94, C13 VSS95, D9 VSS96, D10 VSS99, D11 VSS97, D13 VSS98, D15 VSS100, E4 VSS75, E6 VSS72, E7 VSS73, E8 VSS74, E12 VSS78, E13 VSS79, E14 VSS80, E15 VSS81, E16 VSS82, E19 VSS77, F4 VSS53, F6 VSS55, F10 VSS76, F16 VSS54, G6 VSS89, G13 VSS49, G14 VSS50, G15 VSS51, G16 VSS52, H7 VSS88, H11 VSS83, H13 VSS85, H15 VSS86, H16 VSS87, H20 VSS84, J7 VSS3, J11 VSS1, J13 VSS0, J15 VSS2, K3 VSS4, K6 VSS7, K8 VSS9, K10 VSS10, K12 VSS8, K14 VSS6, K16 VSS5, K18 VSS56, L7 VSS11, L8 VSS12, L10 VSS14, L12 VSS16, L15 VSS15, L19 VSS13, M6 VSS17, M8 VSS19, M10 VSS20, M12 VSS18, M15 VSS21, M16 VSS22, N3 VSS26, N5 VSS24, N8 VSS27, N10 VSS23, N12 VSS25, N15 VSS28, N16 VSS29, P6 VSS30, P7 VSS31, P8 VSS32, P10 VSS34, P12 VSS33, P14 VSS43, P15 VSS44, P20 VSS40, R3 VSS36, R6 VSS38, R7 VSS39, R10 VSS41, R12 VSS42, R14 VSS35, R16 VSS37, T3 VSS48, T7 VSS45, T8 VSS46, T9 VSS47, T15 VSS60, U3 VSS59, U8 VSS58, U19 VSS57, V3 VSS61, V4 VSS62, V5 VSS63, V6 VSS64, V7 VSS65, V8 VSS66, W1 VSS67, W16 VSS68, W20 VSS71, Y1 NC3, Y13 VSS69, Y19 VSS70, Y20 NC4

## KH-RJ45-56-8P8C-D
designator RJ?
RJ45插座不带网络变压器; Manufacturer: kinghelm(金航标); Add into BOM: yes; Connector Type: RJ插座; USOC Codes: RJ45; Number of Ports: 1; Shielding: 有屏蔽; LED: 带LED; Symbol: KH-RJ45-56-8P8C-D; Device: KH-RJ45-56-8P8C-D; LCSC Part Name: RJ45 弯插 带LED; Supplier Part: C2828082; Manufacturer Part: KH-RJ45-56-8P8C-D; Supplier Footprint: 插件; JLCPCB Part Class: Extended Part; Datasheet: https://atta.szlcsc.com/upload/public/pdf/source/20210423/C2828082_8A546C9394CDA3311512DA62DE64A2CA.pdf; Supplier: LCSC; Convert to PCB: yes; Mounting Style: 弯插; Ratings: -; Contact Material: -; Contact Plating: -; Operating Temperature Range: -; Soldering Temperature(Max): -
footprint RJ45-TH_KH-RJ45-56-8P8C-D
pins: 1, 2, 3, 4, 5, 6, 7, 8, 9 LED-R-, 10 LED-R+, 11 LED-L-, 12 LED-L+, 13 SHELL, 14 SHELL

## LAN8720A-CP
designator U?, comment LAN8720A
2/2 Transceiver Full RMII 24-QFN-EP _4x4_; MF: Microchip; MP: LAN8720A-CP; Package: QFN-24 Microchip; Value: *; Price: None; SnapEDA_Link: https://www.snapeda.com/parts/LAN8720A-CP/Microchip/view-part/237160/?ref=snap; Availability: Unavailable
footprint QFN50P400X400X100-25N
pins: 1 VDD2A (power), 2 LED2/!NINTSEL! (io), 3 LED1/REGOFF (io), 4 XTAL2 (out), 5 XTAL1/CLKLN (in), 6 VDDCR (power), 7 RXD1/MODE1 (io), 8 RXD0/MODE0 (io), 9 VDDIO (power), 10 RXER/PHYADO (io), 11 CRS_DV/MODE2 (io), 12 MDIO (io), 13 MDC (in), 14 ~{NINT!/REFCLKO} (out), 15 ~{NRST} (in), 16 TXEN (in), 17 TXD0 (in), 18 TXD1 (in), 19 VDD1A (power), 20 TXN (io), 21 TXP (io), 22 RXN (io), 23 RXP (io), 24 RBIAS (in), 25 VSS (power)

## LED0603
designator LED?, comment LED  (value not drawn)
LED0603
footprint LED0603
pins: 1 A, 2 K

## LEN_PACK_M12
designator M?, comment LEN_PACK  (value not drawn)
M12镜头座20mm孔位
footprint LEN_PACK_M12 (M12镜头座)
text: M12

## LESD5D5.0CT1G
designator D?
双向TVS; BOM_Manufacturer: Leshan Radio; Contributor: LCSC; BOM_Paste Type: expand; BOM_Supplier: LCSC; BOM_Supplier Part: C383211; BOM_Manufacturer Part: LESD5D5.0CT1G; spicePre: D; spiceSymbolName: LESD5D5.0CT1G
footprint LESD5D5.0CT1G
pins: 1, 2

## LM3404
designator U?, comment LM3404HV
footprint SOP-8_EP_150mil
pins: 0 PAD, 1 SW, 2 BOOT, 3 DIM, 4 GND, 5 CS, 6 RON, 7 VCC, 8 VIN

## LP4-1Gb-X16-SDP
designator U?
LPDDR4; SWAP_INFO: (S1+S2+S3); SPLIT_INST: TRUE
footprint BGA200-080065-1510-009
part A pins: A5 ZQ0, B2 DQ0_A, B4 DQ7_A, B9 DQ15_A, B11 DQ8_A, C2 DQ1_A, C3 DMI0_A, C4 DQ6_A, C9 DQ14_A, C10 DMI1_A, C11 DQ9_A, D3 DQS0_T_A, D10 DQS1_T_A, E2 DQ2_A, E3 DQS0_C_A, E4 DQ5_A, E9 DQ13_A, E10 DQS1_C_A, E11 DQ10_A, F2 DQ3_A, F4 DQ4_A, F9 DQ12_A, F11 DQ11_A, G2 ODT_CA_A, H2 CA0_A, H4 CS0_A, H9 CA2_A, H10 CA3_A, H11 CA4_A, J2 CA1_A, J4 CKE0_A, J8 CK_T_A, J9 CK_C_A, J11 CA5_A, T11 RESET_N
part B pins: A4 VDD2 (power), A9 VDD2 (power), AA3 VDDQ (power), AA5 VDDQ (power), AA8 VDDQ (power), AA10 VDDQ (power), AB4 VDD2 (power), AB9 VDD2 (power), B3 VDDQ (power), B5 VDDQ (power), B8 VDDQ (power), B10 VDDQ (power), D1 VDDQ (power), D5 VDDQ (power), D8 VDDQ (power), D12 VDDQ (power), F1 VDD1 (power), F3 VDDQ (power), F5 VDD2 (power), F8 VDD2 (power), F10 VDDQ (power), F12 VDD1 (power), G4 VDD1 (power), G9 VDD1 (power), H1 VDD2 (power), H5 VDD2 (power), H8 VDD2 (power), H12 VDD2 (power), K1 VDD2 (power), K3 VDD2 (power), K10 VDD2 (power), K12 VDD2 (power), N1 VDD2 (power), N3 VDD2 (power), N10 VDD2 (power), N12 VDD2 (power), R1 VDD2 (power), R5 VDD2 (power), R8 VDD2 (power), R12 VDD2 (power), T4 VDD1 (power), T9 VDD1 (power), U1 VDD1 (power), U3 VDDQ (power), U5 VDD2 (power), U8 VDD2 (power), U10 VDDQ (power), U12 VDD1 (power), W1 VDDQ (power), W5 VDDQ (power), W8 VDDQ (power), W12 VDDQ (power)
part C pins: A1 DNU1, A2 DNU2, A3 VSS1, A8 NC1, A10 VSS2, A11 DNU3, A12 DNU4, AA1 DNU7, AA2 NC40, AA4 NC41, AA9 NC42, AA11 NC43, AA12 DNU8, AB1 DNU9, AB2 DNU10, AB3 VSS55, AB5 VSS56, AB8 VSS57, AB10 VSS58, AB11 DNU11, AB12 DNU12, B1 DNU5, B12 DNU6, C1 VSS3, C5 VSS4, C8 VSS5, C12 VSS6, D2 VSS7, D4 VSS8, D9 VSS9, D11 VSS10, E1 VSS11, E5 VSS12, E8 VSS13, E12 VSS14, G1 VSS15, G3 VSS16, G5 VSS17, G8 VSS18, G10 VSS19, G11 NC2, G12 VSS20, H3 NC3, J1 VSS21, J3 VSS22, J5 NC4, J10 VSS23, J12 VSS24, K2 VSS25, K4 VSS26, K5 NC5, K8 NC6, K9 VSS27, K11 VSS28, N2 VSS29, N4 VSS30, N5 NC7, N8 NC8, N9 VSS31, N11 VSS32, P1 VSS33, P2 NC9, P3 VSS34, P4 NC10, P5 NC11, P8 NC12, P9 NC13, P10 VSS35, P11 NC14, P12 VSS36, R2 NC15, R3 NC16, R4 NC17, R9 NC18, R10 NC19, R11 NC20, T1 VSS37, T2 NC21, T3 VSS38, T5 VSS39, T8 VSS40, T10 VSS41, T12 VSS42, U2 NC22, U4 NC23, U9 NC24, U11 NC25, V1 VSS43, V2 NC26, V3 NC27, V4 NC28, V5 VSS44, V8 VSS45, V9 NC29, V10 NC30, V11 NC31, V12 VSS46, W2 VSS47, W3 NC32, W4 VSS48, W9 VSS49, W10 NC33, W11 VSS50, Y1 VSS51, Y2 NC34, Y3 NC35, Y4 NC36, Y5 VSS52, Y8 VSS53, Y9 NC37, Y10 NC38, Y11 NC39, Y12 VSS54

## LSF0204PWR
designator U?
Manufacturer: TI(德州仪器); Add into BOM: yes; Channel Type: 双向; Supply Voltage (VCCA): 800mV~4.5V; Supply Voltage (VCCB): 1.8V~5.5V; Number of Circuits: 1; Channels per Circuit: 4; Output Type: 开路漏极；推挽式; Symbol: LSF0204PWR; Device: LSF0204PWR; LCSC Part Name: 4位双向电平转换器; Supplier Part: C202288; Manufacturer Part: LSF0204PWR; Supplier Footprint: TSSOP-14; JLCPCB Part Class: Extended Part; Datasheet: https://www.ti.com/cn/lit/gpn/lsf0204; Supplier: LCSC; Convert to PCB: yes; Input Signal: -; Output Signal: -; Data Rate: -; Operating Temperature: -40℃~+125℃; Features: 自动方向检测
footprint TSSOP-14_L5.0-W4.4-P0.65-LS6.4-BL
pins: 1 Vref_A, 2 A1, 3 A2, 4 A3, 5 A4, 6 NC, 7 GND, 8 EN, 9 NC, 10 B4, 11 B3, 12 B2, 13 B1, 14 Vref_B

## LTC4357CMS8PBF
designator U?, comment LTC4357
MOSFET Ideal Diode Controller; Mfr_Name: Analog Devices Inc; RefDes: RefDes; Type: Type
footprint MSOP-8_MS_LIT
footprint MSOP-8_MS_LIT-L
footprint MSOP-8_MS_LIT-M
pins: 1 IN (in), 2 NC, 3 NC, 4 GATE (out), 5 GND (power), 6 NC, 7 VDD (power), 8 OUT (out)

## LW-MPA223A
designator U?  (value not drawn)
Qualcomm Power Line Communication Module
footprint LW-MPA223A
pins: 1 GND, 2 RST, 3 ETH, 4 PLC, 5 PWR, 6 3.3V, 7 TXP, 8 TXN, 9 RXP, 10 RXN, 11 12V, 12 GND, 13 NC, 14 NC, 15 NC, 16 NC, 17 NC, 18 NC, 19 NC, 20 ACL, 21 NC, 22 NC, 23 NC, 24 ACN

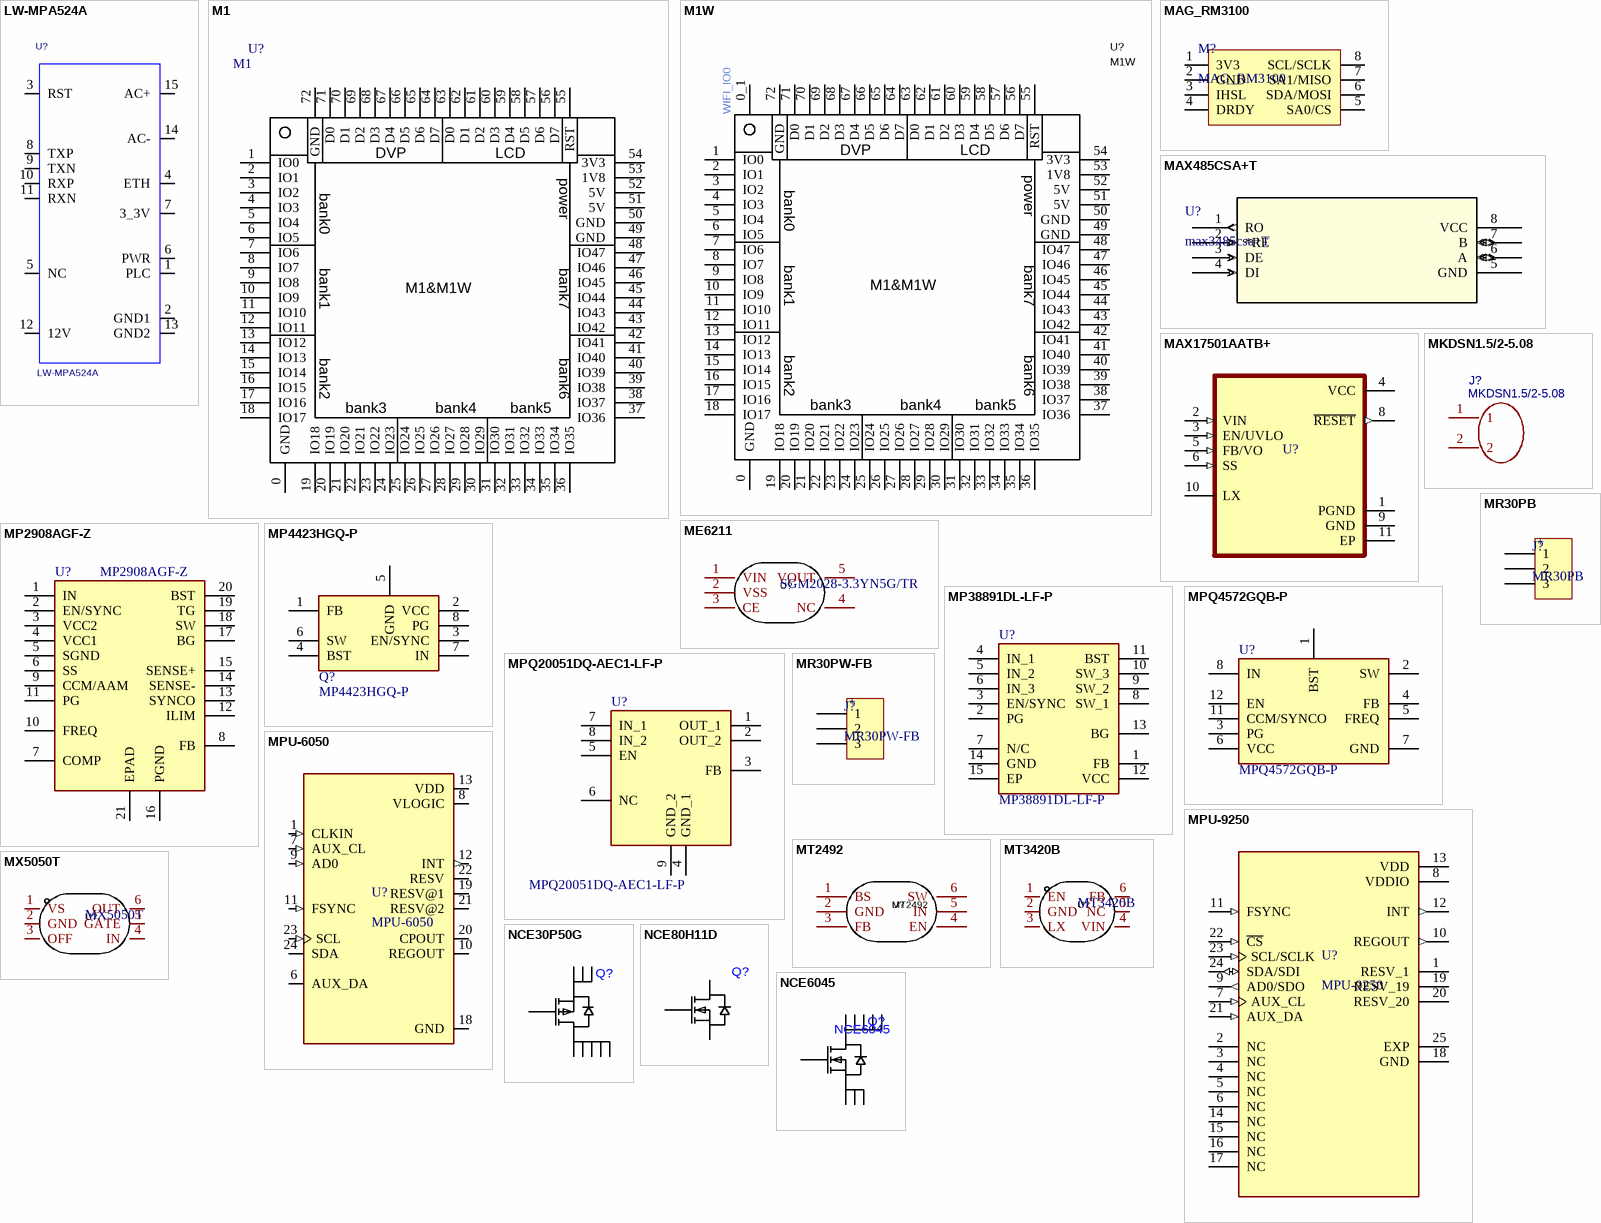
[diagram p12: symbols LW-MPA524A to NCE6045]

## LW-MPA524A
designator U?
Qualcomm Power Line Communication Module; Source_Path: D:\WORK\BCM47531\LIBRARY1.OLB; PCB DECAL: LW-MPA524A; Value: LW-MPA524A
footprint LW-MPA524A
pins: 1 PLC, 2 GND1, 3 RST, 4 ETH, 5 NC, 6 PWR, 7 3_3V, 8 TXP, 9 TXN, 10 RXP, 11 RXN, 12 12V, 13 GND2, 14 AC-, 15 AC+

## M1
designator U?
Sipeed K210 Module
footprint M1
pins: 0 GND, 1 IO0, 2 IO1, 3 IO2, 4 IO3, 5 IO4, 6 IO5, 7 IO6, 8 IO7, 9 IO8, 10 IO9, 11 IO10, 12 IO11, 13 IO12, 14 IO13, 15 IO14, 16 IO15, 17 IO16, 18 IO17, 19 IO18, 20 IO19, 21 IO20, 22 IO21, 23 IO22, 24 IO23, 25 IO24, 26 IO25, 27 IO26, 28 IO27, 29 IO28, 30 IO29, 31 IO30, 32 IO31, 33 IO32, 34 IO33, 35 IO34, 36 IO35, 37 IO36, 38 IO37, 39 IO38, 40 IO39, 41 IO40, 42 IO41, 43 IO42, 44 IO43, 45 IO44, 46 IO45, 47 IO46, 48 IO47, 49 GND, 50 GND, 51 5V, 52 5V, 53 1V8, 54 3V3, 55 RST, 56 D7, 57 D6, 58 D5, 59 D4, 60 D3, 61 D2, 62 D1, 63 D0, 64 D7, 65 D6, 66 D5, 67 D4, 68 D3, 69 D2, 70 D1, 71 D0, 72 GND
text: DVP; LCD; power; bank0; bank1; bank7; bank2; bank6; bank3; bank4; bank5

## M1W
designator U?
Sipeed K210 Module
footprint M1W
pins: 0 GND, 0_1, 1 IO0, 2 IO1, 3 IO2, 4 IO3, 5 IO4, 6 IO5, 7 IO6, 8 IO7, 9 IO8, 10 IO9, 11 IO10, 12 IO11, 13 IO12, 14 IO13, 15 IO14, 16 IO15, 17 IO16, 18 IO17, 19 IO18, 20 IO19, 21 IO20, 22 IO21, 23 IO22, 24 IO23, 25 IO24, 26 IO25, 27 IO26, 28 IO27, 29 IO28, 30 IO29, 31 IO30, 32 IO31, 33 IO32, 34 IO33, 35 IO34, 36 IO35, 37 IO36, 38 IO37, 39 IO38, 40 IO39, 41 IO40, 42 IO41, 43 IO42, 44 IO43, 45 IO44, 46 IO45, 47 IO46, 48 IO47, 49 GND, 50 GND, 51 5V, 52 5V, 53 1V8, 54 3V3, 55 RST, 56 D7, 57 D6, 58 D5, 59 D4, 60 D3, 61 D2, 62 D1, 63 D0, 64 D7, 65 D6, 66 D5, 67 D4, 68 D3, 69 D2, 70 D1, 71 D0, 72 GND
text: WIFI_IO0; DVP; LCD; power; bank0; bank1; bank7; M1&M1W; bank2; bank6; bank3; bank4; bank5

## MAG_RM3100
designator M?
RM3100模块
footprint MAG_RM3100 (RM3100模块)
pins: 1 3V3, 2 GND, 3 IHSL, 4 DRDY, 5 SA0/CS, 6 SDA/MOSI, 7 SA1/MISO, 8 SCL/SCLK

## MAX485CSA+T
designator U?, comment max3485csa+T
TTL串口转RS485; Mfr_Name: Maxim Integrated Products; Copyright: Copyright (C) 2022 Ultra Librarian. All rights reserved.; Manufacturer_Part_Number: max3485csa+T; RefDes: RefDes; Type: DEV
footprint SOP-8_L4.9-W3.9-P1.27-LS6.0-BL
pins: 1 RO (out), 2 *RE (in), 3 DE (in), 4 DI (in), 5 GND (power), 6 A (io), 7 B (io), 8 VCC (power)

## MAX17501AATB+
designator U?
Buck Switching Regulator IC Positive Fixed 3.3V 1 Output 500mA 10-WFDFN Exposed Pad; MP: MAX17501AATB+; MF: Maxim Integrated; Availability: Warning; SnapEDA_Link: https://www.snapeda.com/parts/MAX17501AATB+/Maxim%20Integrated/view-part/583992/?ref=snap; Price: None; Check_prices: https://www.snapeda.com/parts/MAX17501AATB+/Maxim%20Integrated/view-part/583992/?ref=eda; Package: TDFN-10 Maxim; Purchase-URL: https://pricing.snapeda.com/search/part/MAX17501AATB+/?ref=eda; Value: *
footprint SON50P300X200X80-11N
pins: 1 PGND (power), 2 VIN (in), 3 EN/UVLO (in), 4 VCC (power), 5 FB/VO (in), 6 SS (in), 8 ~{RESET} (out), 9 GND (power), 10 LX, 11 EP (power)

## ME6211
designator U?, comment SGM2028-3.3YN5G/TR
LDO; Manufacturer: SGMICRO(圣邦微); Add into BOM: yes; Output Type: 固定; Output Polarity: 正; Number of Outputs: 1; Maximum Input Voltage: 5.5V; Output Voltage: 3.3V; Dropout Voltage: 420mV@(500mA); Output Current: 500mA; Power Supply Rejection Ratio (PSRR): 77dB; Name: SGM2028-3.3YN5G/TR; Symbol: SGM2028-3.3YN5G/TR; Device: SGM2028-3.3YN5G/TR; LCSC Part Name: 正 Vin=5.5V Vout=3.3V 500mA 77dB; Supplier Part: C81088; Manufacturer Part: SGM2028-3.3YN5G/TR; Supplier Footprint: SOT-23-5; JLCPCB Part Class: Extended Part; Datasheet: https://atta.szlcsc.com/upload/public/pdf/source/20170704/1499151376719.pdf; Supplier: LCSC; Convert to PCB: yes
footprint SOT23-5
pins: 1 VIN, 2 VSS, 3 CE, 4 NC, 5 VOUT

## MKDSN1.5/2-5.08
designator J?
KF128-5.08端子大电流版; BOM_Manufacturer: Phoenix Contact; BOM_Paste Type: expand; BOM_Assembly Type: manualWeld; BOM_Supplier: LCSC; BOM_Manufacturer Part: MKDSN1.5/2-5.08; BOM_Supplier Part: C91153; spicePre: C; spiceSymbolName: MKDSN1.5/2-5.08
footprint Pin2
pins: 1, 2

## MP2908AGF-Z
designator U?
Buck Controller; Manufacturer_Name: Monolithic Power Systems (MPS); Datasheet Link: https://www.monolithicpower.com/pub/media/document/MP2908A_r1.01.pdf; Height: 1.2mm; Manufacturer_Part_Number: MP2908AGF-Z; Mouser Part Number: 946-MP2908AGF-Z; Mouser Price/Stock: https://www.mouser.com/Search/Refine.aspx?Keyword=946-MP2908AGF-Z
footprint SOP65P640X120-21N
pins: 1 IN, 2 EN/SYNC, 3 VCC2, 4 VCC1, 5 SGND, 6 SS, 7 COMP, 8 FB, 9 CCM/AAM, 10 FREQ, 11 PG, 12 ILIM, 13 SYNCO, 14 SENSE-, 15 SENSE+, 16 PGND, 17 BG, 18 SW, 19 TG, 20 BST, 21 EPAD

## MP4423HGQ-P
designator Q?
Buck; Manufacturer_Name: Monolithic Power Systems (MPS); Datasheet Link: https://componentsearchengine.com/Datasheets/1/MP4423HGQ-P.pdf; Height: 1mm; Manufacturer_Part_Number: MP4423HGQ-P; Mouser Part Number: 946-MP4423HGQ-P; Mouser Price/Stock: https://www.mouser.co.uk/ProductDetail/Monolithic-Power-Systems-MPS/MP4423HGQ-P?qs=493kPxzlxfL2LSjJYToBPQ%3D%3D
footprint MP4423GQP
pins: 1 FB, 2 VCC, 3 EN/SYNC, 4 BST, 5 GND, 6 SW, 7 IN, 8 PG

## MP38891DL-LF-P
designator U?
Buck; Manufacturer_Name: Monolithic Power Systems (MPS); Datasheet Link: https://componentsearchengine.com/Datasheets/1/MP38891DL-LF-P.pdf; Height: 1mm; Manufacturer_Part_Number: MP38891DL-LF-P; Mouser Part Number: 946-MP38891DLLFP; Mouser Price/Stock: https://www.mouser.com/Search/Refine.aspx?Keyword=946-MP38891DLLFP
footprint SON50P300X400X100-15N-D
pins: 1 FB, 2 PG, 3 EN/SYNC, 4 IN_1, 5 IN_2, 6 IN_3, 7 N/C, 8 SW_1, 9 SW_2, 10 SW_3, 11 BST, 12 VCC, 13 BG, 14 GND, 15 EP

## MPQ4572GQB-P
designator U?
Buck; Manufacturer_Name: Monolithic Power Systems (MPS); Datasheet Link: https://www.monolithicpower.com/en/documentview/productdocument/index/version/2/document_type/Datasheet/lang/en/sku/MPQ4572GQBE-AEC1/document_id/6950/; Height: 1mm; Manufacturer_Part_Number: MPQ4572GQB-P; Mouser Part Number: 946-MPQ4572GQB-P; Mouser Price/Stock: https://www.mouser.co.uk/ProductDetail/Monolithic-Power-Systems-MPS/MPQ4572GQB-P?qs=GedFDFLaBXHIo2cxmU7Mww%3D%3D
footprint MPQ4572GQBP
pins: 1 BST, 2 SW, 3 PG, 4 FB, 5 FREQ, 6 VCC, 7 GND, 8 IN, 11 CCM/SYNCO, 12 EN

## MPQ20051DQ-AEC1-LF-P
designator U?
LDO; Manufacturer_Name: Monolithic Power Systems (MPS); Datasheet Link: https://www.monolithicpower.com/pub/media/document/MPQ20051_r1.0.pdf; Height: 1mm; Manufacturer_Part_Number: MPQ20051DQ-AEC1-LF-P; Mouser Part Number: 946-MP20051DQAEC1LFP; Mouser Price/Stock: https://www.mouser.co.uk/ProductDetail/Monolithic-Power-Systems-MPS/MPQ20051DQ-AEC1-LF-P?qs=IW9Tsl75qsWIqwkY02mOMw%3D%3D
footprint SON65P300X300X100-9N-D
pins: 1 OUT_1, 2 OUT_2, 3 FB, 4 GND_1, 5 EN, 6 NC, 7 IN_1, 8 IN_2, 9 GND_2

## MPU-6050
designator U?
6轴姿态传感器; MF: TDK InvenSense; Value: *; SnapEDA_Link: https://www.snapeda.com/parts/MPU-6050/TDK+InvenSense/view-part/?ref=snap; Purchase-URL: https://pricing.snapeda.com/search/part/MPU-6050/?ref=eda; Availability: In Stock; Price: None; Package: QFN-24 InvenSense; Check_prices: https://www.snapeda.com/parts/MPU-6050/TDK+InvenSense/view-part/?ref=eda; MP: MPU-6050
footprint QFN50P400X400X95-24N
pins: 1 CLKIN (in), 6 AUX_DA (io), 7 AUX_CL (in), 8 VLOGIC (power), 9 AD0 (in), 10 REGOUT, 11 FSYNC (in), 12 INT (out), 13 VDD (power), 18 GND (power), 19 RESV@1, 20 CPOUT, 21 RESV@2, 22 RESV, 23 SCL (in), 24 SDA (io)

## MPU-9250
designator U?
6轴姿态传感器; MF: TDK InvenSense; SnapEDA_Link: https://www.snapeda.com/parts/MPU-9250/TDK+InvenSense/view-part/?ref=snap; Package: TFQFN-24 TDK InvenSense; Value: *; MP: MPU-9250; Check_prices: https://www.snapeda.com/parts/MPU-9250/TDK+InvenSense/view-part/?ref=eda
footprint QFN40P300X300X105-25N
pins: 1 RESV_1 (power), 2 NC, 3 NC, 4 NC, 5 NC, 6 NC, 7 AUX_CL (in), 8 VDDIO (power), 9 AD0/SDO (out), 10 REGOUT (out), 11 FSYNC (in), 12 INT (out), 13 VDD (power), 14 NC, 15 NC, 16 NC, 17 NC, 18 GND (power), 19 RESV_19, 20 RESV_20 (power), 21 AUX_DA (in), 22 ~{CS} (in), 23 SCL/SCLK (in), 24 SDA/SDI (io), 25 EXP

## MR30PB
designator J?
3PIN XT30 立插座公母头
footprint MR30PB
pins: 1, 2, 3
text: +

## MR30PW-FB
designator J?
3PIN XT30 卧插座母头
footprint MR30PW-FB
pins: 1, 2, 3
text: +

## MT2492
designator U?
Buck; Manufacturer: 西安航天民芯; Add into BOM: yes; Function: 降压型; Switch tube (built-in/external): 内置; Name: MT2492; Symbol: MT2492; Device: MT2492; LCSC Part Name: MT2492; Supplier Part: C89358; Manufacturer Part: MT2492; Supplier Footprint: SOT-23-6; JLCPCB Part Class: Extended Part; Datasheet: https://atta.szlcsc.com/upload/public/pdf/source/20221209/5C81DA9662873D3A116170FFBF63E49D.pdf; Supplier: LCSC; Convert to PCB: yes; Input Voltage: -; Output Current (Max): -; Switching Frequency: -; Synchronous Rectification: -; Number of Outputs: -; Topology: -
footprint SOT-23-6_L2.9-W1.6-P0.95-LS2.8-BR
pins: 1 BS, 2 GND, 3 FB, 4 EN, 5 IN, 6 SW

## MT3420B
designator U?
Buck; Manufacturer: 西安航天民芯; Add into BOM: yes; Function: 降压型; Switch tube (built-in/external): 内置; Symbol: MT3420B; Device: MT3420B; LCSC Part Name: MT3420B; Supplier Part: C88169; Manufacturer Part: MT3420B; Supplier Footprint: SOT-23-6; JLCPCB Part Class: Extended Part; Datasheet: https://atta.szlcsc.com/upload/public/pdf/source/20161118/1479432899451.pdf; Supplier: LCSC; Convert to PCB: yes; Input Voltage: -; Output Current (Max): -; Switching Frequency: -; Synchronous Rectification: -; Number of Outputs: -; Topology: -
footprint SOT-23-6_L2.9-W1.6-P0.95-LS2.8-BR
pins: 1 EN, 2 GND, 3 LX, 4 VIN, 5 NC, 6 FB

## MX5050T
designator U?
MOS理想二极管控制器; Manufacturer: Wuxi Maxinmicro(无锡明芯微); Add into BOM: yes; Symbol: MX5050T; Device: MX5050T; LCSC Part Name: 高侧OR-ing FET控制器; Supplier Part: C5341122; Manufacturer Part: MX5050T; Supplier Footprint: SOT-23-6L; JLCPCB Part Class: Extended Part; Datasheet: https://atta.szlcsc.com/upload/public/pdf/source/20231020/8BD8F41BB5F6337EDA871F068C35E1A8.pdf; Supplier: LCSC; Convert to PCB: yes
footprint SOT23-6 (SOT-23/SC-74A; 5 Leads; Body 3.1 x 3 mm, inc. leads (LxW max))
pins: 1 VS, 2 GND, 3 OFF, 4 IN, 5 GATE, 6 OUT

## NCE30P50G
designator Q?
PMOS
footprint PDFN-8_L4.9-W5.8-P1.27-LS6.1-BL
pins: 1 S, 2 S, 3 S, 4 G, 5 D, 6 D, 7 D, 8 D, 9 D

## NCE80H11D
designator Q?
NMOS
footprint TO263-2
pins: 1 G, 3 S, 4 D

## NCE6045
designator Q?
NMOS
footprint PDFN-8_L4.9-W5.8-P1.27-LS6.1-BL
pins: 1 S, 2 S, 3 S, 4 G, 5 D, 6 D, 7 D, 8 D, 9 D

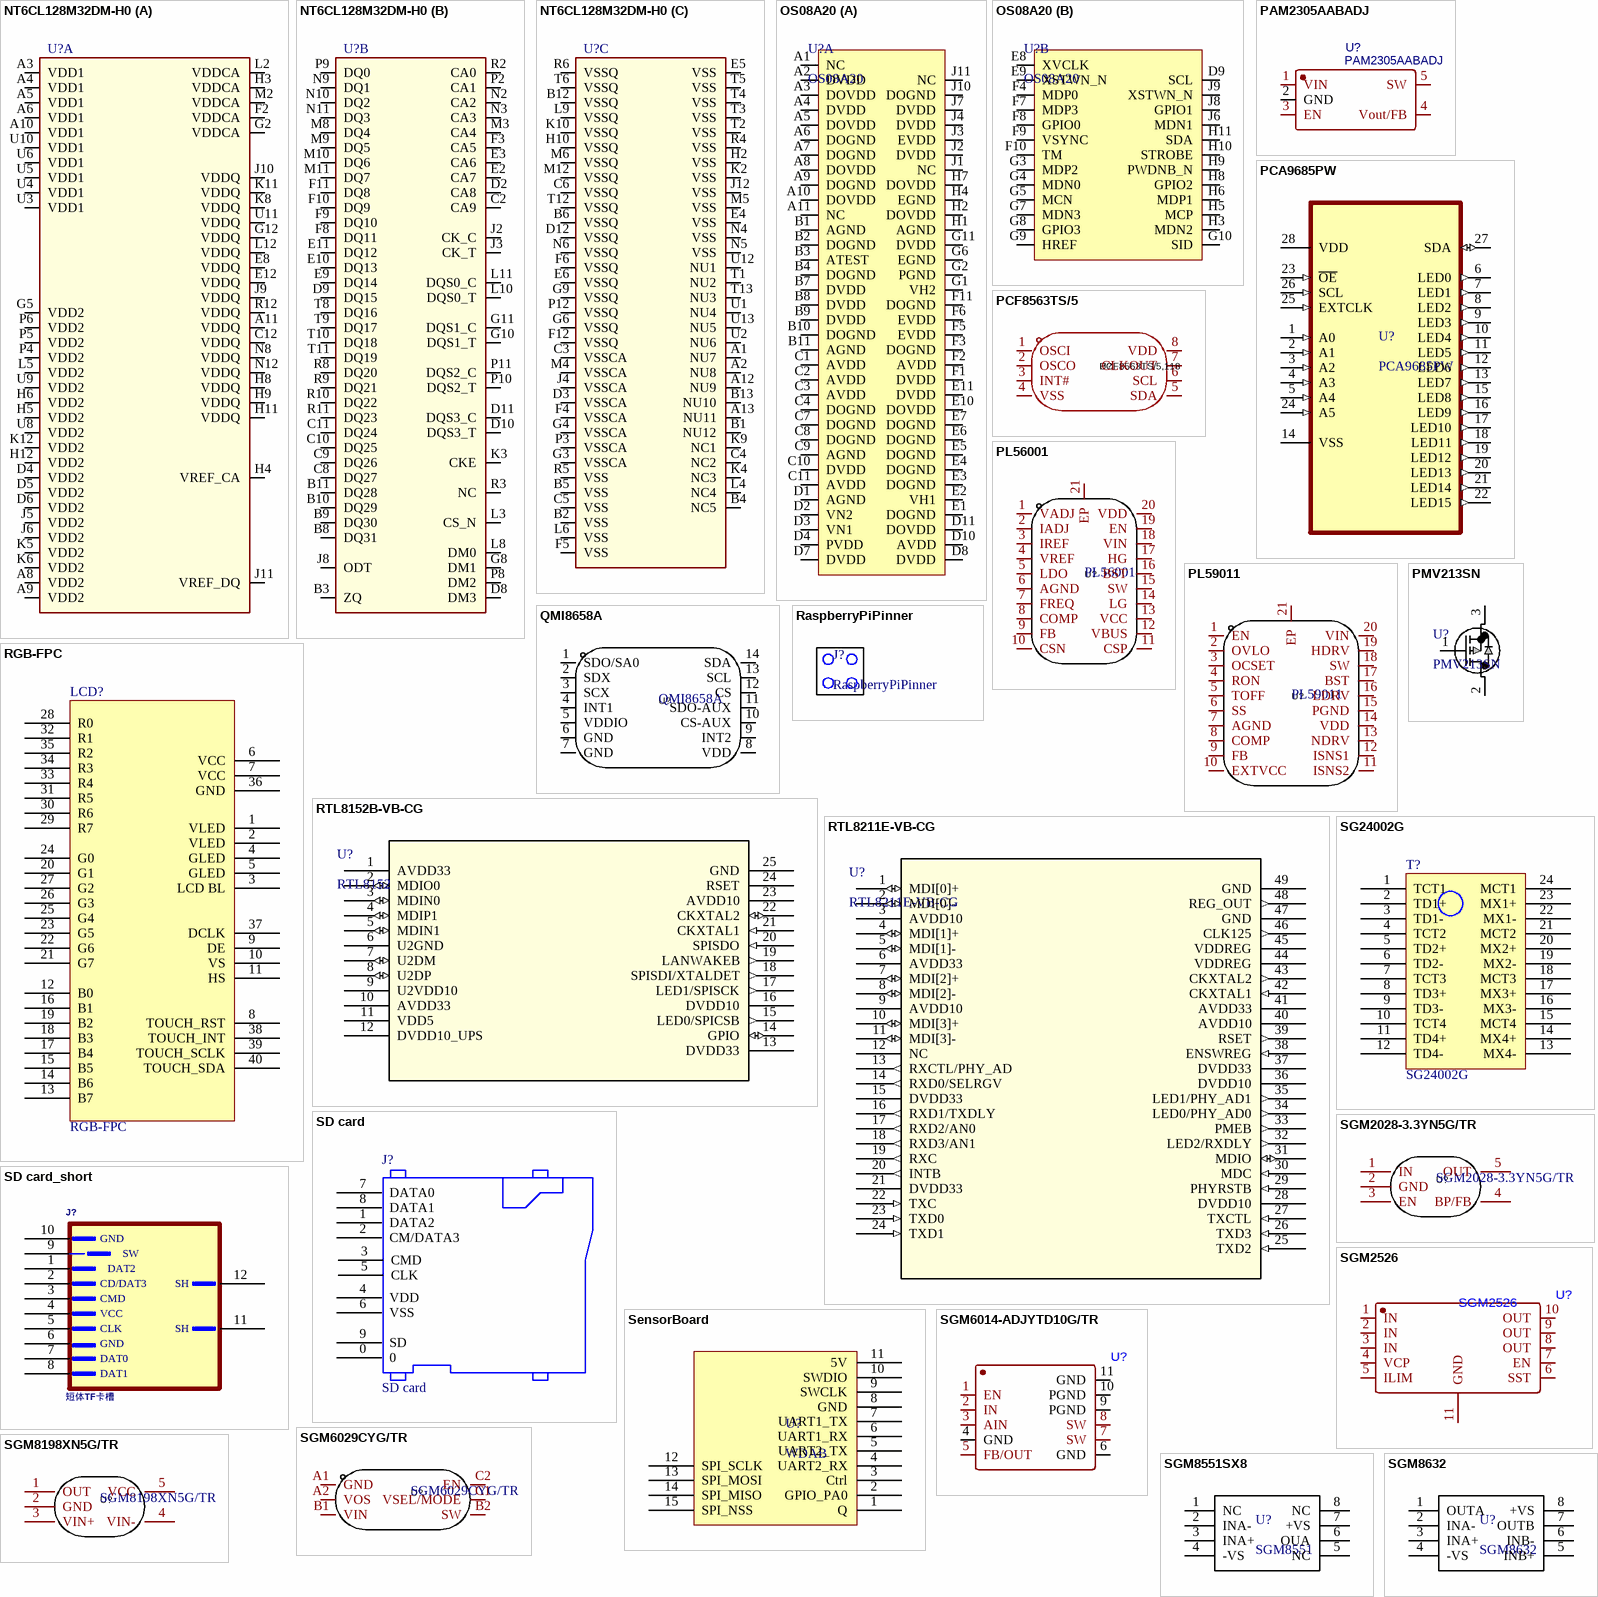
[diagram p13: symbols NT6CL128M32DM-H0 to SGM8632]

## NT6CL128M32DM-H0
designator U?
SWAP_INFO: (S1+S2+S3); SPLIT_INST: TRUE
footprint BGA178-080065-120115-008
part A pins: A3 VDD1 (power), A4 VDD1 (power), A5 VDD1 (power), A6 VDD1 (power), A8 VDD2 (power), A9 VDD2 (power), A10 VDD1 (power), A11 VDDQ (power), C12 VDDQ (power), D4 VDD2 (power), D5 VDD2 (power), D6 VDD2 (power), E8 VDDQ (power), E12 VDDQ (power), F2 VDDCA (power), G2 VDDCA (power), G5 VDD2 (power), G12 VDDQ (power), H3 VDDCA (power), H4 VREF_CA, H5 VDD2 (power), H6 VDD2 (power), H8 VDDQ (power), H9 VDDQ (power), H11 VDDQ (power), H12 VDD2 (power), J5 VDD2 (power), J6 VDD2 (power), J9 VDDQ (power), J10 VDDQ (power), J11 VREF_DQ, K5 VDD2 (power), K6 VDD2 (power), K8 VDDQ (power), K11 VDDQ (power), K12 VDD2 (power), L2 VDDCA (power), L5 VDD2 (power), L12 VDDQ (power), M2 VDDCA (power), N8 VDDQ (power), N12 VDDQ (power), P4 VDD2 (power), P5 VDD2 (power), P6 VDD2 (power), R12 VDDQ (power), U3 VDD1 (power), U4 VDD1 (power), U5 VDD1 (power), U6 VDD1 (power), U8 VDD2 (power), U9 VDD2 (power), U10 VDD1 (power), U11 VDDQ (power)
part B pins: B3 ZQ, B8 DQ31, B9 DQ30, B10 DQ29, B11 DQ28, C2 CA9, C8 DQ27, C9 DQ26, C10 DQ25, C11 DQ24, D2 CA8, D8 DM3, D9 DQ15, D10 DQS3_T, D11 DQS3_C, E2 CA7, E3 CA6, E9 DQ14, E10 DQ13, E11 DQ12, F3 CA5, F8 DQ11, F9 DQ10, F10 DQ9, F11 DQ8, G8 DM1, G10 DQS1_T, G11 DQS1_C, J2 CK_C, J3 CK_T, J8 ODT, K3 CKE, L3 CS_N, L8 DM0, L10 DQS0_T, L11 DQS0_C, M3 CA4, M8 DQ4, M9 DQ5, M10 DQ6, M11 DQ7, N2 CA2, N3 CA3, N9 DQ1, N10 DQ2, N11 DQ3, P2 CA1, P8 DM2, P9 DQ0, P10 DQS2_T, P11 DQS2_C, R2 CA0, R3 NC, R8 DQ20, R9 DQ21, R10 DQ22, R11 DQ23, T8 DQ16, T9 DQ17, T10 DQ18, T11 DQ19
part C pins: A1 NU7, A2 NU8, A12 NU9, A13 NU11, B1 NU12, B2 VSS (power), B4 NC5, B5 VSS (power), B6 VSSQ (power), B12 VSSQ (power), B13 NU10, C3 VSSCA (power), C4 NC2, C5 VSS (power), C6 VSSQ (power), D3 VSSCA (power), D12 VSSQ (power), E4 VSS (power), E5 VSS (power), E6 VSSQ (power), F4 VSSCA (power), F5 VSS (power), F6 VSSQ (power), F12 VSSQ (power), G3 VSSCA (power), G4 VSSCA (power), G6 VSSQ (power), G9 VSSQ (power), H2 VSS (power), H10 VSSQ (power), J4 VSSCA (power), J12 VSS (power), K2 VSS (power), K4 NC3, K9 NC1, K10 VSSQ (power), L4 NC4, L6 VSS (power), L9 VSSQ (power), M4 VSSCA (power), M5 VSS (power), M6 VSSQ (power), M12 VSSQ (power), N4 VSS (power), N5 VSS (power), N6 VSSQ (power), P3 VSSCA (power), P12 VSSQ (power), R4 VSS (power), R5 VSS (power), R6 VSSQ (power), T1 NU2, T2 VSS (power), T3 VSS (power), T4 VSS (power), T5 VSS (power), T6 VSSQ (power), T12 VSSQ (power), T13 NU3, U1 NU4, U2 NU6, U12 NU1, U13 NU5

## OS08A20
designator U?
CMOS Sensor
footprint BGA92CP63X72_11X9_634X893X79B28N (Ball Grid Array (BGA), 0.63 mm row pitch X 0.72 mm col. pitch, rect.; 92 pin, 6.34 mm L X 8.939 mm W X 0.795 mm H body)
part A pins: A1 NC, A2 DVDD, A3 DOVDD, A4 DVDD, A5 DOVDD, A6 DOGND, A7 DOGND, A8 DOVDD, A9 DOGND, A10 DOVDD, A11 NC, B1 AGND, B2 DOGND, B3 ATEST, B4 DOGND, B7 DVDD, B8 DVDD, B9 DVDD, B10 DOGND, B11 AGND, C1 AVDD, C2 AVDD, C3 AVDD, C4 DOGND, C7 DOGND, C8 DOGND, C9 AGND, C10 DVDD, C11 AVDD, D1 AGND, D2 VN2, D3 VN1, D4 PVDD, D7 DVDD, D8 DVDD, D10 AVDD, D11 DOVDD, E1 DOGND, E2 VH1, E3 DOGND, E4 DOGND, E5 DOGND, E6 DOGND, E7 DOGND, E10 DOVDD, E11 DVDD, F1 DVDD, F2 AVDD, F3 DOGND, F5 EVDD, F6 EVDD, F11 DOGND, G1 VH2, G2 PGND, G6 EGND, G11 DVDD, H1 AGND, H2 DOVDD, H4 EGND, H7 DOVDD, J1 NC, J2 DVDD, J3 EVDD, J4 DVDD, J7 DVDD, J10 DOGND, J11 NC
part B pins: D9 SCL, E8 XVCLK, E9 XSTWN_N, F4 MDP0, F7 MDP3, F8 GPIO0, F9 VSYNC, F10 TM, G3 MDP2, G4 MDN0, G5 MCN, G7 MDN3, G8 GPIO3, G9 HREF, G10 SID, H3 MDN2, H5 MCP, H6 MDP1, H8 GPIO2, H9 PWDNB_N, H10 STROBE, H11 SDA, J6 MDN1, J8 GPIO1, J9 XSTWN_N

## PAM2305AABADJ
designator U?
Buck; BOM_Manufacturer: Diodes Incorporated; Contributor: LCSC; BOM_Supplier: LCSC; BOM_Supplier Part: C264079; BOM_Manufacturer Part: PAM2305AABADJ; BOM_JLCPCB Part Class: Extended Part; spicePre: U; spiceSymbolName: PAM2305AABADJ
footprint pam2305aabadj
pins: 1 VIN, 2 GND, 3 EN, 4 Vout/FB, 5 SW

## PCA9685PW
designator U?
LED Driver IC 16 Output Linear PWM Dimming 25mA 28-TSSOP; MF: NXP USA; MP: PCA9685PW,112; Purchase-URL: https://pricing.snapeda.com/search/part/PCA9685PW,112/?ref=eda; Value: *; Package: TSSOP-28 NXP Semiconductors; Digi-Key_Part_Number: 568-8366-5-ND; SnapEDA_Link: https://www.snapeda.com/parts/PCA9685PW,112/NXP%20USA%20Inc./view-part/550390/?ref=snap; Check_prices: https://www.snapeda.com/parts/PCA9685PW,112/NXP%20USA%20Inc./view-part/550390/?ref=eda
footprint SOP65P640X110-28N
pins: 1 A0 (in), 2 A1 (in), 3 A2 (in), 4 A3 (in), 5 A4 (in), 6 LED0 (out), 7 LED1 (out), 8 LED2 (out), 9 LED3 (out), 10 LED4 (out), 11 LED5 (out), 12 LED6 (out), 13 LED7 (out), 14 VSS, 15 LED8 (out), 16 LED9 (out), 17 LED10 (out), 18 LED11 (out), 19 LED12 (out), 20 LED13 (out), 21 LED14 (out), 22 LED15 (out), 23 ~{OE} (in), 24 A5 (in), 25 EXTCLK (in), 26 SCL (in), 27 SDA (io), 28 VDD (power)

## PCF8563TS/5
designator U?, comment PCF8563TS/5,118
Manufacturer: NXP(恩智浦); Add into BOM: yes; Interface: I2C; Operating Voltage: 1.8V~5.5V; Symbol: PCF8563TS/5,118; Device: PCF8563TS/5,118; LCSC Part Name: PCF8563TS/5,118; Supplier Part: C27397; Manufacturer Part: PCF8563TS/5,118; Supplier Footprint: TSSOP-8-3.0mm; JLCPCB Part Class: Extended Part; Datasheet: https://atta.szlcsc.com/upload/public/pdf/source/20140314/1457707017287.pdf; Supplier: LCSC; Convert to PCB: yes
footprint TSSOP-8_L3.0-W3.0-P0.65-LS4.9-BL
pins: 1 OSCI, 2 OSCO, 3 INT#, 4 VSS, 5 SDA, 6 SCL, 7 CLKOUT, 8 VDD

## PL56001
designator U?
Manufacturer: POWLICON(宝砾微); Add into BOM: yes; Name: PL56001; Symbol: PL56001; Device: PL56001; LCSC Part Name: PL56001; Supplier Part: C2827894; Manufacturer Part: PL56001; Supplier Footprint: QFN-20-EP(4x4); JLCPCB Part Class: Extended Part; Datasheet: https://atta.szlcsc.com/upload/public/pdf/source/20220905/540603693934B765805353D8CAD5F3E7.pdf; Supplier: LCSC; Convert to PCB: yes
footprint QFN-20_L4.0-W4.0-P0.5-EP2.0
pins: 1 VADJ, 2 IADJ, 3 IREF, 4 VREF, 5 LDO, 6 AGND, 7 FREQ, 8 COMP, 9 FB, 10 CSN, 11 CSP, 12 VBUS, 13 VCC, 14 LG, 15 SW, 16 BST, 17 HG, 18 VIN, 19 EN, 20 VDD, 21 EP

## PL59011
designator U?
Manufacturer: POWLICON(宝砾微); Name: PL5901; Add into BOM: yes; Symbol: PL5901; Device: PL5901; LCSC Part Name: PL5901; Supplier Part: C782002; Manufacturer Part: PL5901; Supplier Footprint: HTSSOP-20-EP; JLCPCB Part Class: Extended Part; Datasheet: https://atta.szlcsc.com/upload/public/pdf/source/20200921/C782002_8D0AB0EE84005079DAAA0E58A4031F67.pdf; Supplier: LCSC; Convert to PCB: yes
footprint HTSSOP-20_L6.5-W4.4-P0.65-LS6.4-BL-EP-3
pins: 1 EN, 2 OVLO, 3 OCSET, 4 RON, 5 TOFF, 6 SS, 7 AGND, 8 COMP, 9 FB, 10 EXTVCC, 11 ISNS2, 12 ISNS1, 13 NDRV, 14 VDD, 15 PGND, 16 LDRV, 17 BST, 18 SW, 19 HDRV, 20 VIN, 21 EP

## PMV213SN
designator U?
PMOS; Mfr_Name: Nexperia; Copyright: Copyright (C) 2022 Ultra Librarian. All rights reserved.; Manufacturer_Part_Number: PMV213SN; RefDes: RefDes; Type: DEV
footprint SOT23-3L
pins: 1, 2, 3

## QMI8658A
designator U?
六轴传感器; Symbol: QMI8658A_C3021082; Designer: U?; Device: QMI8658A_C3021082
footprint LGA-14_L3.0-W2.5-P0.50-TL
pins: 1 SDO/SA0, 2 SDX, 3 SCX, 4 INT1, 5 VDDIO, 6 GND, 7 GND, 8 VDD, 9 INT2, 10 CS-AUX, 11 SDO-AUX, 12 CS, 13 SCL, 14 SDA

## RaspberryPiPinner
designator J?
树莓派定位孔
footprint RaspberryPiPinner (树莓派定位孔)

## RGB-FPC
designator LCD?
LCD排线接口40P
footprint FPC40P-0.5-FK750M3
pins: 1 VLED, 2 VLED, 3 LCD BL, 4 GLED, 5 GLED, 6 VCC, 7 VCC, 8 TOUCH_RST, 9 DE, 10 VS, 11 HS, 12 B0, 13 B7, 14 B6, 15 B5, 16 B1, 17 B4, 18 B3, 19 B2, 20 G1, 21 G7, 22 G6, 23 G5, 24 G0, 25 G4, 26 G3, 27 G2, 28 R0, 29 R7, 30 R6, 31 R5, 32 R1, 33 R4, 34 R3, 35 R2, 36 GND, 37 DCLK, 38 TOUCH_INT, 39 TOUCH_SCLK, 40 TOUCH_SDA

## RTL8152B-VB-CG
designator U?, comment RTL8152
USB to ETH PHY; Mfr_Name: Realtek; RefDes: RefDes; Type: Type
footprint RTL8152B-VB-CG_RTK
footprint RTL8152B-VB-CG_RTK-L
footprint RTL8152B-VB-CG_RTK-M
pins: 1 AVDD33 (power), 2 MDIO0 (io), 3 MDIN0 (io), 4 MDIP1 (io), 5 MDIN1 (io), 6 U2GND (power), 7 U2DM (io), 8 U2DP (io), 9 U2VDD10 (power), 10 AVDD33 (power), 11 VDD5 (power), 12 DVDD10_UPS (power), 13 DVDD33 (power), 14 GPIO (io), 15 LED0/SPICSB (out), 16 DVDD10 (power), 17 LED1/SPISCK (out), 18 SPISDI/XTALDET (out), 19 LANWAKEB (out), 20 SPISDO (in), 21 CKXTAL1 (in), 22 CKXTAL2 (io), 23 AVDD10 (power), 24 RSET (power), 25 GND (power)

## RTL8211E-VB-CG
designator U?
千兆以太网PHY; Mfr_Name: Realtek; Copyright: Copyright (C) 2022 Ultra Librarian. All rights reserved.; Manufacturer_Part_Number: RTL8211E-VB-CG; RefDes: RefDes; Type: DEV
footprint QFN48_6X6X0P85_RTK
pins: 1 MDI[0]+ (io), 2 MDI[0]- (io), 3 AVDD10 (power), 4 MDI[1]+ (io), 5 MDI[1]- (io), 6 AVDD33 (power), 7 MDI[2]+ (io), 8 MDI[2]- (io), 9 AVDD10 (power), 10 MDI[3]+ (io), 11 MDI[3]- (io), 12 NC, 13 RXCTL/PHY_AD (out), 14 RXD0/SELRGV (out), 15 DVDD33 (power), 16 RXD1/TXDLY (out), 17 RXD2/AN0 (out), 18 RXD3/AN1 (out), 19 RXC (out), 20 INTB (out), 21 DVDD33 (power), 22 TXC (in), 23 TXD0 (in), 24 TXD1 (in), 25 TXD2 (in), 26 TXD3 (in), 27 TXCTL (in), 28 DVDD10 (power), 29 PHYRSTB (in), 30 MDC (in), 31 MDIO (io), 32 LED2/RXDLY (out), 33 PMEB (out), 34 LED0/PHY_AD0 (out), 35 LED1/PHY_AD1 (out), 36 DVDD10 (power), 37 DVDD33 (power), 38 ENSWREG (in), 39 RSET (out), 40 AVDD10 (power), 41 AVDD33 (power), 42 CKXTAL1 (in), 43 CKXTAL2 (out), 44 VDDREG (power), 45 VDDREG (power), 46 CLK125 (out), 47 GND, 48 REG_OUT (out), 49 GND

## SD card
designator J?
TF卡槽
footprint SD_CARD
footprint SDCARD0903 (SD卡插座0903)
footprint SD_MINI
pins: 0, 1 DATA2, 2 CM/DATA3, 3 CMD, 4 VDD, 5 CLK, 6 VSS, 7 DATA0, 8 DATA1, 9 SD

## SD card_short
designator J?, comment 短体TF卡槽
footprint TF_CARD_SHORT
pins: 1, 2, 3, 4, 5, 6, 7, 8, 9, 10, 11, 12
text: GND; SW; DAT2; CD/DAT3; SH; CMD; VCC; CLK; DAT0; DAT1

## SensorBoard
designator U?, comment WDAB
舱温水深解算板
footprint SensorBoard (舱温水深传感器解算板)
pins: 1 Q, 2 GPIO_PA0, 3 Ctrl, 4 UART2_RX, 5 UART2_TX, 6 UART1_RX, 7 UART1_TX, 8 GND, 9 SWCLK, 10 SWDIO, 11 5V, 12 SPI_SCLK, 13 SPI_MOSI, 14 SPI_MISO, 15 SPI_NSS

## SG24002G
designator T?
千兆/百兆网络变压器
footprint SG24002G
pins: 1 TCT1, 2 TD1+, 3 TD1-, 4 TCT2, 5 TD2+, 6 TD2-, 7 TCT3, 8 TD3+, 9 TD3-, 10 TCT4, 11 TD4+, 12 TD4-, 13 MX4-, 14 MX4+, 15 MCT4, 16 MX3-, 17 MX3+, 18 MCT3, 19 MX2-, 20 MX2+, 21 MCT2, 22 MX1-, 23 MX1+, 24 MCT1

## SGM2028-3.3YN5G/TR
designator U?
LDO; Manufacturer: SGMICRO(圣邦微); Add into BOM: yes; Output Type: 固定; Output Polarity: 正; Number of Outputs: 1; Maximum Input Voltage: 5.5V; Output Voltage: 3.3V; Dropout Voltage: 420mV@(500mA); Output Current: 500mA; Power Supply Rejection Ratio (PSRR): 77dB; Name: SGM2028-3.3YN5G/TR; Symbol: SGM2028-3.3YN5G/TR; Device: SGM2028-3.3YN5G/TR; LCSC Part Name: 正 Vin=5.5V Vout=3.3V 500mA 77dB; Supplier Part: C81088; Manufacturer Part: SGM2028-3.3YN5G/TR; Supplier Footprint: SOT-23-5; JLCPCB Part Class: Extended Part; Datasheet: https://atta.szlcsc.com/upload/public/pdf/source/20170704/1499151376719.pdf; Supplier: LCSC; Convert to PCB: yes
footprint SOT23-5
pins: 1 IN, 2 GND, 3 EN, 4 BP/FB, 5 OUT

## SGM2526
designator U?
footprint TDFN-10-EP_3X3XP0.5MM
pins: 1 IN, 2 IN, 3 IN, 4 VCP, 5 ILIM, 6 SST, 7 EN, 8 OUT, 9 OUT, 10 OUT, 11 GND

## SGM6014-ADJYTD10G/TR
designator U?
Buck
footprint TDFN-10_L3.0-W3.0-P0.50-BL-EP
pins: 1 EN, 2 IN, 3 AIN, 4 GND, 5 FB/OUT, 6 GND, 7 SW, 8 SW, 9 PGND, 10 PGND, 11 GND

## SGM6029CYG/TR
designator U?
Buck; Designer: U?; Symbol: SGM6029CYG/TR; Device: SGM6029CYG/TR
footprint WLCSP-6_L1.0-W0.7-R2-C3-P0.35-BL
pins: A1 GND, A2 VOS, B1 VIN, B2 SW, C1 VSEL/MODE, C2 EN